# Altium integrated library QuickLogic pASIC 1.IntLib: 126 symbols (part 5 of 6)
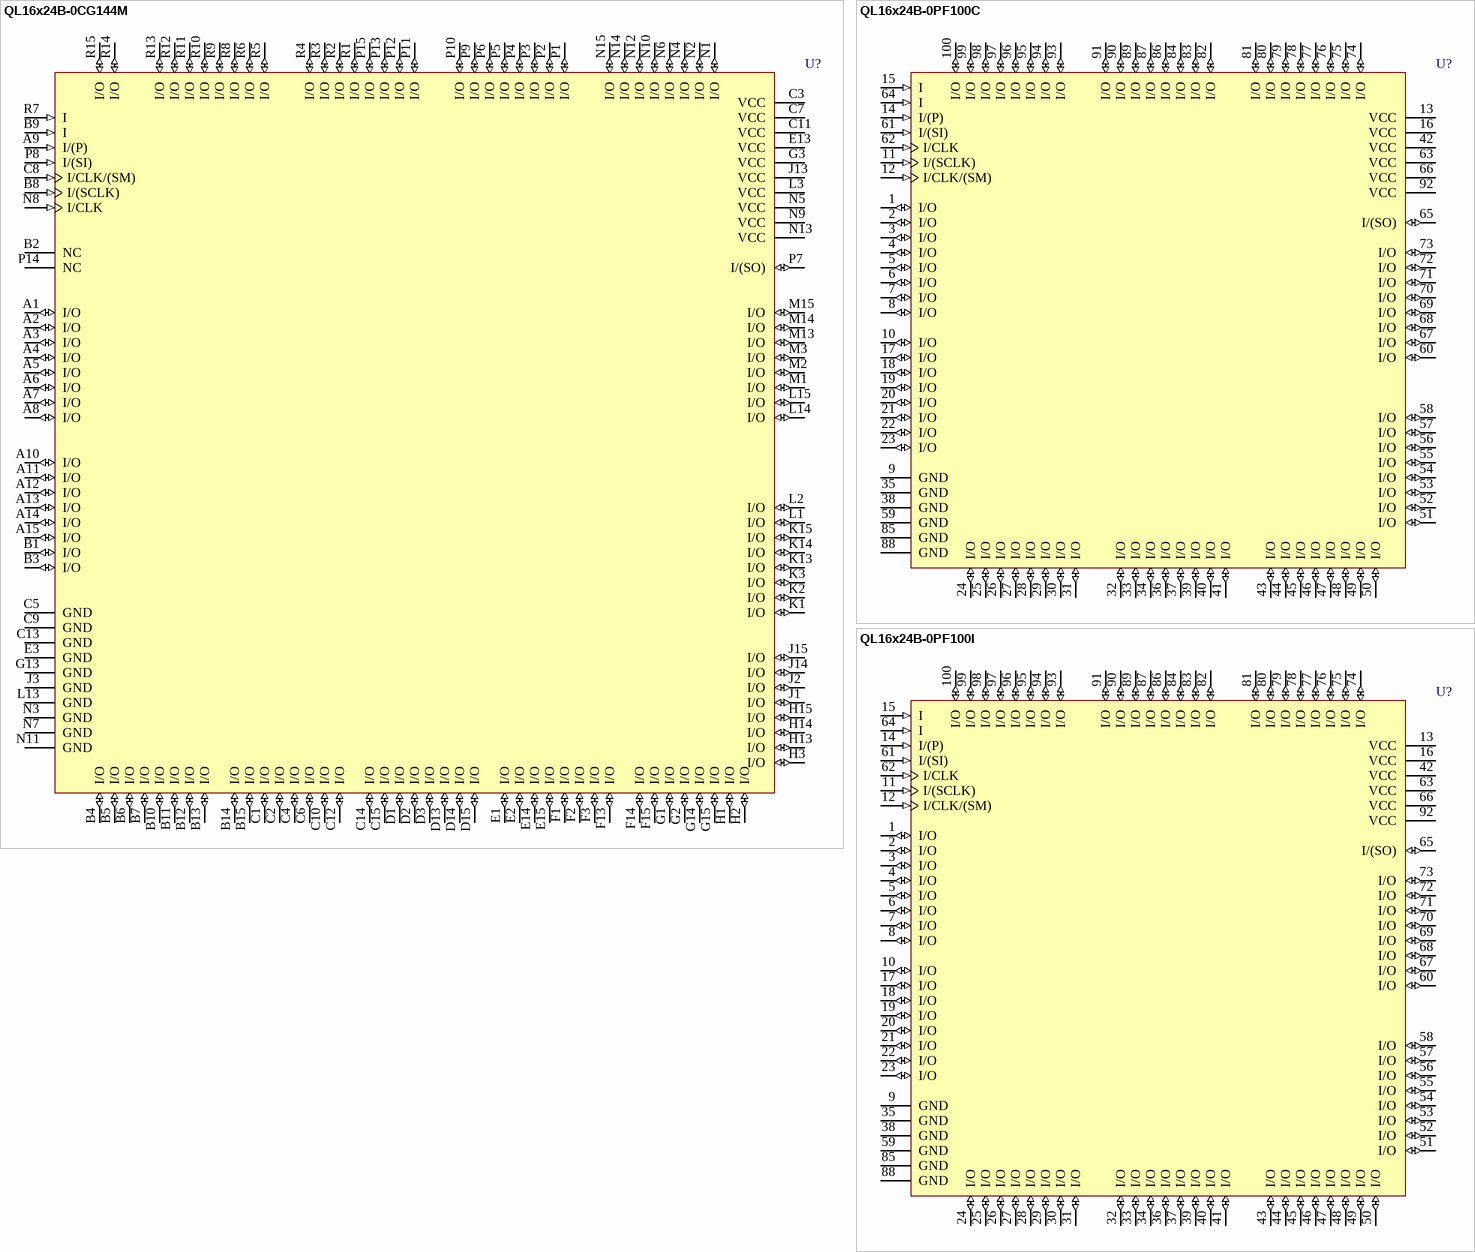
[diagram p32: symbols QL16x24B-0CG144M to QL16x24B-0PF100I]

## QL16x24B-0CG144M
designator U?
Very-High-Speed CMOS FPGA; Note: Pins B2,P14 are not connected; Published: 8-Jun-2000; LatestRevisionDate: 04-Mar-2005; LatestRevisionNote: Stylized 3D Model Added.; DatasheetVersion: 1999; PackageVersion: 1999; PackageReference: CG144; Publisher: Altium Limited; PackageDescription: 145-Pin Ceramic Pin Grid Array 2.54 mm Pitch; ComponentLink1Description: Manufacturer Link; ComponentLink1URL: http://www.quicklogic.com/; ComponentLink2Description: Datasheet; ComponentLink2URL: http://www.quicklogic.com/images/QL16x24b_DS.pdf; ComponentLink3Description: Discontinuation Notice; ComponentLink3URL: http://www.quicklogic.com/images/EOL_Letter_General.pdf
footprint CG144 (PGA, 145-Leads, Body 40x40mm, Pitch 2.54mm)
3D model QL16x24B-CG145 (145-Pin Ceramic Pin Grid Array 2.54 mm Pitch)
pins: A1 I/O (io), A2 I/O (io), A3 I/O (io), A4 I/O (io), A5 I/O (io), A6 I/O (io), A7 I/O (io), A8 I/O (io), A9 I/(P) (in), A10 I/O (io), A11 I/O (io), A12 I/O (io), A13 I/O (io), A14 I/O (io), A15 I/O (io), B1 I/O (io), B2 NC, B3 I/O (io), B4 I/O (io), B5 I/O (io), B6 I/O (io), B7 I/O (io), B8 I/(SCLK) (in), B9 I (in), B10 I/O (io), B11 I/O (io), B12 I/O (io), B13 I/O (io), B14 I/O (io), B15 I/O (io), C1 I/O (io), C2 I/O (io), C3 VCC (power), C4 I/O (io), C5 GND (power), C6 I/O (io), C7 VCC (power), C8 I/CLK/(SM) (in), C9 GND (power), C10 I/O (io), C11 VCC (power), C12 I/O (io), C13 GND (power), C14 I/O (io), C15 I/O (io), D1 I/O (io), D2 I/O (io), D3 I/O (io), D13 I/O (io), D14 I/O (io), D15 I/O (io), E1 I/O (io), E2 I/O (io), E3 GND (power), E13 VCC (power), E14 I/O (io), E15 I/O (io), F1 I/O (io), F2 I/O (io), F3 I/O (io), F13 I/O (io), F14 I/O (io), F15 I/O (io), G1 I/O (io), G2 I/O (io), G3 VCC (power), G13 GND (power), G14 I/O (io), G15 I/O (io), H1 I/O (io), H2 I/O (io), H3 I/O (io), H13 I/O (io), H14 I/O (io), H15 I/O (io), J1 I/O (io), J2 I/O (io), J3 GND (power), J13 VCC (power), J14 I/O (io), J15 I/O (io), K1 I/O (io), K2 I/O (io), K3 I/O (io), K13 I/O (io), K14 I/O (io), K15 I/O (io), L1 I/O (io), L2 I/O (io), L3 VCC (power), L13 GND (power), L14 I/O (io), L15 I/O (io), M1 I/O (io), M2 I/O (io), M3 I/O (io), M13 I/O (io), M14 I/O (io), M15 I/O (io), N1 I/O (io), N2 I/O (io), N3 GND (power), N4 I/O (io), N5 VCC (power), N6 I/O (io), N7 GND (power), N8 I/CLK (in), N9 VCC (power), N10 I/O (io), N11 GND (power), N12 I/O (io), N13 VCC (power), N14 I/O (io), N15 I/O (io), P1 I/O (io), P2 I/O (io), P3 I/O (io), P4 I/O (io), P5 I/O (io), P6 I/O (io), P7 I/(SO) (io), P8 I/(SI) (in), P9 I/O (io), P10 I/O (io), P11 I/O (io), P12 I/O (io), P13 I/O (io), P14 NC, P15 I/O (io), R1 I/O (io), R2 I/O (io), R3 I/O (io), R4 I/O (io), R5 I/O (io), R6 I/O (io), R7 I (in), R8 I/O (io), R9 I/O (io), R10 I/O (io), R11 I/O (io), R12 I/O (io), R13 I/O (io), R14 I/O (io), R15 I/O (io)

## QL16x24B-0PF100C
designator U?
Very-High-Speed CMOS FPGA; Published: 8-Jun-2000; LatestRevisionDate: 13-Apr-2006; LatestRevisionNote: IPC-7351 Footprint Added.; DatasheetVersion: 1999; PackageVersion: Feb-2000; PackageReference: PF100; Publisher: Altium Limited; PackageDescription: 100-Pin Thin Quad Flat Pack 0.5 mm Pitch; Code_JEDEC: MO-136; ComponentLink1Description: Manufacturer Link; ComponentLink1URL: http://www.quicklogic.com/; ComponentLink2Description: Datasheet; ComponentLink2URL: http://www.quicklogic.com/images/QL16x24b_DS.pdf; ComponentLink3Description: Discontinuation Notice; ComponentLink3URL: http://www.quicklogic.com/images/EOL_Letter_General.pdf
footprint PF100_N (Thin QFP, 100-Leads, Body 14x14mm, Pitch 0.5mm, IPC Medium Density)
footprint PF100_L (Thin QFP, 100-Leads, Body 14x14mm, Pitch 0.5mm, IPC High Density)
footprint PF100_M (Thin QFP, 100-Leads, Body 14x14mm, Pitch 0.5mm, IPC Low Density)
3D model QL16x24B-PF100 (100-Pin Thin Quad Flat Pack 0.5 mm Pitch)
pins: 1 I/O (io), 2 I/O (io), 3 I/O (io), 4 I/O (io), 5 I/O (io), 6 I/O (io), 7 I/O (io), 8 I/O (io), 9 GND (power), 10 I/O (io), 11 I/(SCLK) (in), 12 I/CLK/(SM) (in), 13 VCC (power), 14 I/(P) (in), 15 I (in), 16 VCC (power), 17 I/O (io), 18 I/O (io), 19 I/O (io), 20 I/O (io), 21 I/O (io), 22 I/O (io), 23 I/O (io), 24 I/O (io), 25 I/O (io), 26 I/O (io), 27 I/O (io), 28 I/O (io), 29 I/O (io), 30 I/O (io), 31 I/O (io), 32 I/O (io), 33 I/O (io), 34 I/O (io), 35 GND (power), 36 I/O (io), 37 I/O (io), 38 GND (power), 39 I/O (io), 40 I/O (io), 41 I/O (io), 42 VCC (power), 43 I/O (io), 44 I/O (io), 45 I/O (io), 46 I/O (io), 47 I/O (io), 48 I/O (io), 49 I/O (io), 50 I/O (io), 51 I/O (io), 52 I/O (io), 53 I/O (io), 54 I/O (io), 55 I/O (io), 56 I/O (io), 57 I/O (io), 58 I/O (io), 59 GND (power), 60 I/O (io), 61 I/(SI) (in), 62 I/CLK (in), 63 VCC (power), 64 I (in), 65 I/(SO) (io), 66 VCC (power), 67 I/O (io), 68 I/O (io), 69 I/O (io), 70 I/O (io), 71 I/O (io), 72 I/O (io), 73 I/O (io), 74 I/O (io), 75 I/O (io), 76 I/O (io), 77 I/O (io), 78 I/O (io), 79 I/O (io), 80 I/O (io), 81 I/O (io), 82 I/O (io), 83 I/O (io), 84 I/O (io), 85 GND (power), 86 I/O (io), 87 I/O (io), 88 GND (power), 89 I/O (io), 90 I/O (io), 91 I/O (io), 92 VCC (power), 93 I/O (io), 94 I/O (io), 95 I/O (io), 96 I/O (io), 97 I/O (io), 98 I/O (io), 99 I/O (io), 100 I/O (io)

## QL16x24B-0PF100I
designator U?
Very-High-Speed CMOS FPGA; Published: 8-Jun-2000; LatestRevisionDate: 13-Apr-2006; LatestRevisionNote: IPC-7351 Footprint Added.; DatasheetVersion: 1999; PackageVersion: Feb-2000; PackageReference: PF100; Publisher: Altium Limited; PackageDescription: 100-Pin Thin Quad Flat Pack 0.5 mm Pitch; Code_JEDEC: MO-136; ComponentLink1Description: Manufacturer Link; ComponentLink1URL: http://www.quicklogic.com/; ComponentLink2Description: Datasheet; ComponentLink2URL: http://www.quicklogic.com/images/QL16x24b_DS.pdf; ComponentLink3Description: Discontinuation Notice; ComponentLink3URL: http://www.quicklogic.com/images/EOL_Letter_General.pdf
footprint PF100_N (Thin QFP, 100-Leads, Body 14x14mm, Pitch 0.5mm, IPC Medium Density)
footprint PF100_L (Thin QFP, 100-Leads, Body 14x14mm, Pitch 0.5mm, IPC High Density)
footprint PF100_M (Thin QFP, 100-Leads, Body 14x14mm, Pitch 0.5mm, IPC Low Density)
3D model QL16x24B-PF100 (100-Pin Thin Quad Flat Pack 0.5 mm Pitch)
pins: 1 I/O (io), 2 I/O (io), 3 I/O (io), 4 I/O (io), 5 I/O (io), 6 I/O (io), 7 I/O (io), 8 I/O (io), 9 GND (power), 10 I/O (io), 11 I/(SCLK) (in), 12 I/CLK/(SM) (in), 13 VCC (power), 14 I/(P) (in), 15 I (in), 16 VCC (power), 17 I/O (io), 18 I/O (io), 19 I/O (io), 20 I/O (io), 21 I/O (io), 22 I/O (io), 23 I/O (io), 24 I/O (io), 25 I/O (io), 26 I/O (io), 27 I/O (io), 28 I/O (io), 29 I/O (io), 30 I/O (io), 31 I/O (io), 32 I/O (io), 33 I/O (io), 34 I/O (io), 35 GND (power), 36 I/O (io), 37 I/O (io), 38 GND (power), 39 I/O (io), 40 I/O (io), 41 I/O (io), 42 VCC (power), 43 I/O (io), 44 I/O (io), 45 I/O (io), 46 I/O (io), 47 I/O (io), 48 I/O (io), 49 I/O (io), 50 I/O (io), 51 I/O (io), 52 I/O (io), 53 I/O (io), 54 I/O (io), 55 I/O (io), 56 I/O (io), 57 I/O (io), 58 I/O (io), 59 GND (power), 60 I/O (io), 61 I/(SI) (in), 62 I/CLK (in), 63 VCC (power), 64 I (in), 65 I/(SO) (io), 66 VCC (power), 67 I/O (io), 68 I/O (io), 69 I/O (io), 70 I/O (io), 71 I/O (io), 72 I/O (io), 73 I/O (io), 74 I/O (io), 75 I/O (io), 76 I/O (io), 77 I/O (io), 78 I/O (io), 79 I/O (io), 80 I/O (io), 81 I/O (io), 82 I/O (io), 83 I/O (io), 84 I/O (io), 85 GND (power), 86 I/O (io), 87 I/O (io), 88 GND (power), 89 I/O (io), 90 I/O (io), 91 I/O (io), 92 VCC (power), 93 I/O (io), 94 I/O (io), 95 I/O (io), 96 I/O (io), 97 I/O (io), 98 I/O (io), 99 I/O (io), 100 I/O (io)

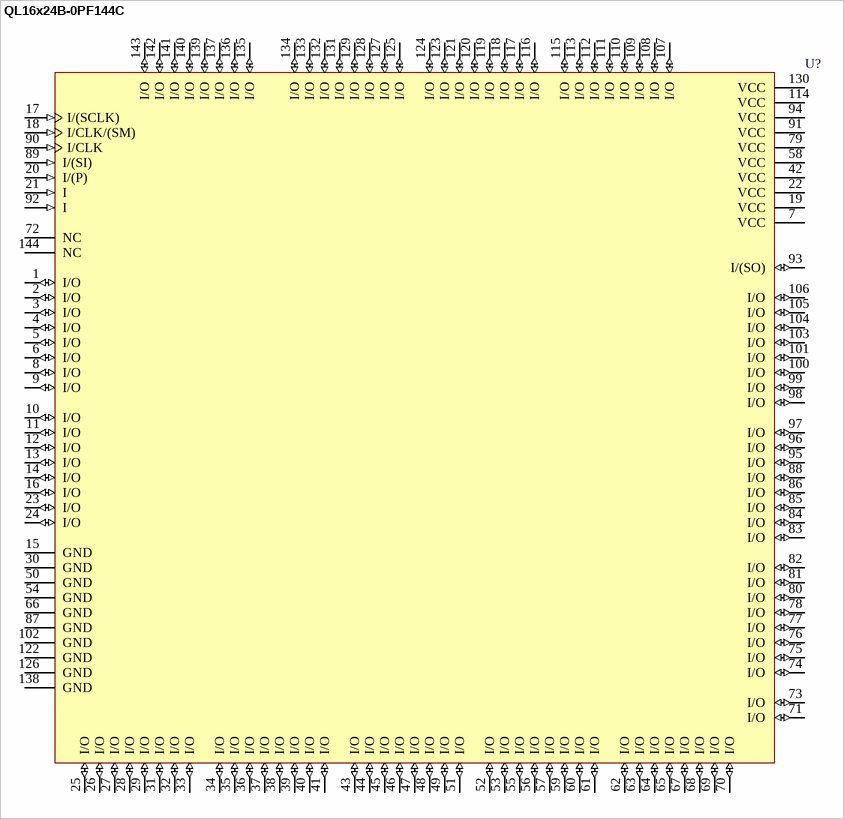
[diagram p18: symbol QL16x24B-0PF144C]

## QL16x24B-0PF144C
designator U?
Very-High-Speed CMOS FPGA; Note: Pins 72,144 are not connected; Published: 8-Jun-2000; LatestRevisionDate: 13-Apr-2006; LatestRevisionNote: IPC-7351 Footprint Added.; DatasheetVersion: 1999; PackageVersion: Feb-1992; PackageReference: PF144; Publisher: Altium Limited; PackageDescription: 144-Pin Thin Plastic Quad Flat Pack 0.5 mm Pitch; ComponentLink1Description: Manufacturer Link; ComponentLink1URL: http://www.quicklogic.com/; ComponentLink2Description: Datasheet; ComponentLink2URL: http://www.quicklogic.com/images/QL16x24b_DS.pdf; ComponentLink3Description: Discontinuation Notice; ComponentLink3URL: http://www.quicklogic.com/images/EOL_Letter_General.pdf
footprint PF144_N (Thin QFP, 144-Leads, Body 20x20mm, Pitch 0.5mm, IPC Medium Density)
footprint PF144_L (Thin QFP, 144-Leads, Body 20x20mm, Pitch 0.5mm, IPC High Density)
footprint PF144_M (Thin QFP, 144-Leads, Body 20x20mm, Pitch 0.5mm, IPC Low Density)
3D model QL16x24B-PF144 (144-Pin Thin Plastic Quad Flat Pack 0.5 mm Pitch)
pins: 1 I/O (io), 2 I/O (io), 3 I/O (io), 4 I/O (io), 5 I/O (io), 6 I/O (io), 7 VCC (power), 8 I/O (io), 9 I/O (io), 10 I/O (io), 11 I/O (io), 12 I/O (io), 13 I/O (io), 14 I/O (io), 15 GND (power), 16 I/O (io), 17 I/(SCLK) (in), 18 I/CLK/(SM) (in), 19 VCC (power), 20 I/(P) (in), 21 I (in), 22 VCC (power), 23 I/O (io), 24 I/O (io), 25 I/O (io), 26 I/O (io), 27 I/O (io), 28 I/O (io), 29 I/O (io), 30 GND (power), 31 I/O (io), 32 I/O (io), 33 I/O (io), 34 I/O (io), 35 I/O (io), 36 I/O (io), 37 I/O (io), 38 I/O (io), 39 I/O (io), 40 I/O (io), 41 I/O (io), 42 VCC (power), 43 I/O (io), 44 I/O (io), 45 I/O (io), 46 I/O (io), 47 I/O (io), 48 I/O (io), 49 I/O (io), 50 GND (power), 51 I/O (io), 52 I/O (io), 53 I/O (io), 54 GND (power), 55 I/O (io), 56 I/O (io), 57 I/O (io), 58 VCC (power), 59 I/O (io), 60 I/O (io), 61 I/O (io), 62 I/O (io), 63 I/O (io), 64 I/O (io), 65 I/O (io), 66 GND (power), 67 I/O (io), 68 I/O (io), 69 I/O (io), 70 I/O (io), 71 I/O (io), 72 NC, 73 I/O (io), 74 I/O (io), 75 I/O (io), 76 I/O (io), 77 I/O (io), 78 I/O (io), 79 VCC (power), 80 I/O (io), 81 I/O (io), 82 I/O (io), 83 I/O (io), 84 I/O (io), 85 I/O (io), 86 I/O (io), 87 GND (power), 88 I/O (io), 89 I/(SI) (in), 90 I/CLK (in), 91 VCC (power), 92 I (in), 93 I/(SO) (io), 94 VCC (power), 95 I/O (io), 96 I/O (io), 97 I/O (io), 98 I/O (io), 99 I/O (io), 100 I/O (io), 101 I/O (io), 102 GND (power), 103 I/O (io), 104 I/O (io), 105 I/O (io), 106 I/O (io), 107 I/O (io), 108 I/O (io), 109 I/O (io), 110 I/O (io), 111 I/O (io), 112 I/O (io), 113 I/O (io), 114 VCC (power), 115 I/O (io), 116 I/O (io), 117 I/O (io), 118 I/O (io), 119 I/O (io), 120 I/O (io), 121 I/O (io), 122 GND (power), 123 I/O (io), 124 I/O (io), 125 I/O (io), 126 GND (power), 127 I/O (io), 128 I/O (io), 129 I/O (io), 130 VCC (power), 131 I/O (io), 132 I/O (io), 133 I/O (io), 134 I/O (io), 135 I/O (io), 136 I/O (io), 137 I/O (io), 138 GND (power), 139 I/O (io), 140 I/O (io), 141 I/O (io), 142 I/O (io), 143 I/O (io), 144 NC

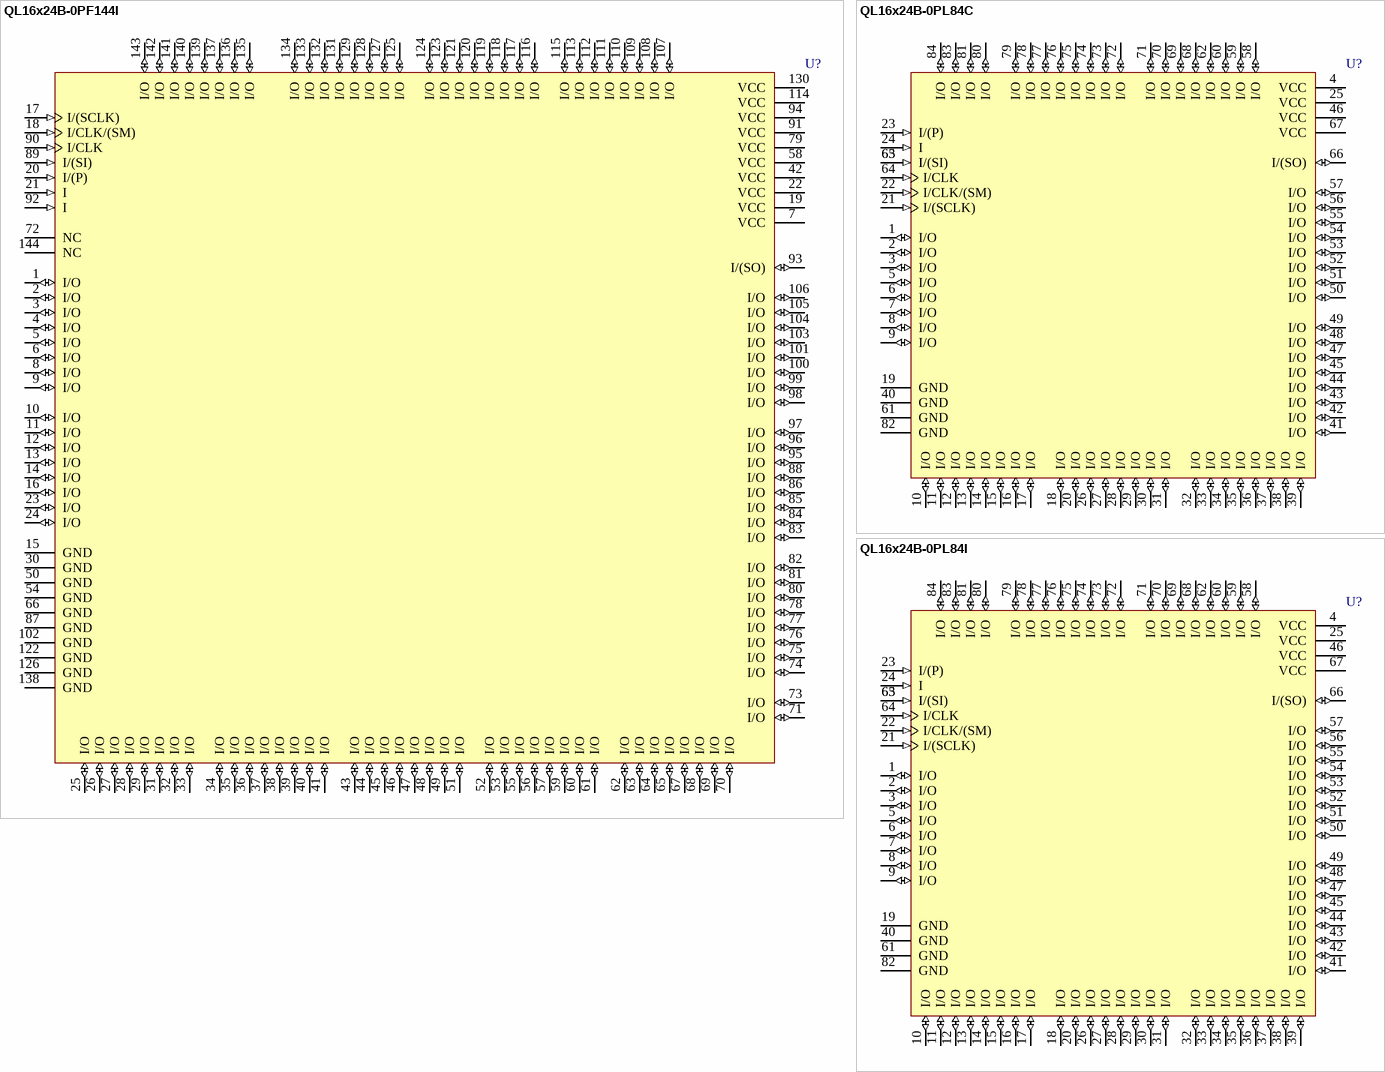
[diagram p19: symbols QL16x24B-0PF144I to QL16x24B-0PL84I]

## QL16x24B-0PF144I
designator U?
Very-High-Speed CMOS FPGA; Note: Pins 72,144 are not connected; Published: 8-Jun-2000; LatestRevisionDate: 13-Apr-2006; LatestRevisionNote: IPC-7351 Footprint Added.; DatasheetVersion: 1999; PackageVersion: Feb-1992; PackageReference: PF144; Publisher: Altium Limited; PackageDescription: 144-Pin Thin Plastic Quad Flat Pack 0.5 mm Pitch; ComponentLink1Description: Manufacturer Link; ComponentLink1URL: http://www.quicklogic.com/; ComponentLink2Description: Datasheet; ComponentLink2URL: http://www.quicklogic.com/images/QL16x24b_DS.pdf; ComponentLink3Description: Discontinuation Notice; ComponentLink3URL: http://www.quicklogic.com/images/EOL_Letter_General.pdf
footprint PF144_N (Thin QFP, 144-Leads, Body 20x20mm, Pitch 0.5mm, IPC Medium Density)
footprint PF144_L (Thin QFP, 144-Leads, Body 20x20mm, Pitch 0.5mm, IPC High Density)
footprint PF144_M (Thin QFP, 144-Leads, Body 20x20mm, Pitch 0.5mm, IPC Low Density)
3D model QL16x24B-PF144 (144-Pin Thin Plastic Quad Flat Pack 0.5 mm Pitch)
pins: 1 I/O (io), 2 I/O (io), 3 I/O (io), 4 I/O (io), 5 I/O (io), 6 I/O (io), 7 VCC (power), 8 I/O (io), 9 I/O (io), 10 I/O (io), 11 I/O (io), 12 I/O (io), 13 I/O (io), 14 I/O (io), 15 GND (power), 16 I/O (io), 17 I/(SCLK) (in), 18 I/CLK/(SM) (in), 19 VCC (power), 20 I/(P) (in), 21 I (in), 22 VCC (power), 23 I/O (io), 24 I/O (io), 25 I/O (io), 26 I/O (io), 27 I/O (io), 28 I/O (io), 29 I/O (io), 30 GND (power), 31 I/O (io), 32 I/O (io), 33 I/O (io), 34 I/O (io), 35 I/O (io), 36 I/O (io), 37 I/O (io), 38 I/O (io), 39 I/O (io), 40 I/O (io), 41 I/O (io), 42 VCC (power), 43 I/O (io), 44 I/O (io), 45 I/O (io), 46 I/O (io), 47 I/O (io), 48 I/O (io), 49 I/O (io), 50 GND (power), 51 I/O (io), 52 I/O (io), 53 I/O (io), 54 GND (power), 55 I/O (io), 56 I/O (io), 57 I/O (io), 58 VCC (power), 59 I/O (io), 60 I/O (io), 61 I/O (io), 62 I/O (io), 63 I/O (io), 64 I/O (io), 65 I/O (io), 66 GND (power), 67 I/O (io), 68 I/O (io), 69 I/O (io), 70 I/O (io), 71 I/O (io), 72 NC, 73 I/O (io), 74 I/O (io), 75 I/O (io), 76 I/O (io), 77 I/O (io), 78 I/O (io), 79 VCC (power), 80 I/O (io), 81 I/O (io), 82 I/O (io), 83 I/O (io), 84 I/O (io), 85 I/O (io), 86 I/O (io), 87 GND (power), 88 I/O (io), 89 I/(SI) (in), 90 I/CLK (in), 91 VCC (power), 92 I (in), 93 I/(SO) (io), 94 VCC (power), 95 I/O (io), 96 I/O (io), 97 I/O (io), 98 I/O (io), 99 I/O (io), 100 I/O (io), 101 I/O (io), 102 GND (power), 103 I/O (io), 104 I/O (io), 105 I/O (io), 106 I/O (io), 107 I/O (io), 108 I/O (io), 109 I/O (io), 110 I/O (io), 111 I/O (io), 112 I/O (io), 113 I/O (io), 114 VCC (power), 115 I/O (io), 116 I/O (io), 117 I/O (io), 118 I/O (io), 119 I/O (io), 120 I/O (io), 121 I/O (io), 122 GND (power), 123 I/O (io), 124 I/O (io), 125 I/O (io), 126 GND (power), 127 I/O (io), 128 I/O (io), 129 I/O (io), 130 VCC (power), 131 I/O (io), 132 I/O (io), 133 I/O (io), 134 I/O (io), 135 I/O (io), 136 I/O (io), 137 I/O (io), 138 GND (power), 139 I/O (io), 140 I/O (io), 141 I/O (io), 142 I/O (io), 143 I/O (io), 144 NC

## QL16x24B-0PL84C
designator U?
Very-High-Speed CMOS FPGA; Published: 8-Jun-2000; LatestRevisionDate: 13-Apr-2006; LatestRevisionNote: IPC-7351 Footprint Added.; DatasheetVersion: 1999; PackageVersion: Feb-1996; PackageReference: PL84; Publisher: Altium Limited; PackageDescription: 84-Pin Plastic Leaded Chip Carrier 1.27 mm Pitch; Code_IPC: PLCC-84; ComponentLink1Description: Manufacturer Link; ComponentLink1URL: http://www.quicklogic.com/; ComponentLink2Description: Datasheet; ComponentLink2URL: http://www.quicklogic.com/images/QL16x24b_DS.pdf; ComponentLink3Description: Discontinuation Notice; ComponentLink3URL: http://www.quicklogic.com/images/EOL_Letter_General.pdf
footprint PL84_N (Leaded Chip Carrier, 84-Leads, Body 29.3x29.3mm, Pitch 1.27mm, IPC Medium Density)
footprint PL84_L (Leaded Chip Carrier, 84-Leads, Body 29.3x29.3mm, Pitch 1.27mm, IPC High Density)
footprint PL84_M (Leaded Chip Carrier, 84-Leads, Body 29.3x29.3mm, Pitch 1.27mm, IPC Low Density)
3D model QL16x24B-QCC-J84 (84-Pin Plastic Leaded Chip Carrier 1.27 mm Pitch)
pins: 1 I/O (io), 2 I/O (io), 3 I/O (io), 4 VCC (power), 5 I/O (io), 6 I/O (io), 7 I/O (io), 8 I/O (io), 9 I/O (io), 10 I/O (io), 11 I/O (io), 12 I/O (io), 13 I/O (io), 14 I/O (io), 15 I/O (io), 16 I/O (io), 17 I/O (io), 18 I/O (io), 19 GND (power), 20 I/O (io), 21 I/(SCLK) (in), 22 I/CLK/(SM) (in), 23 I/(P) (in), 24 I (in), 25 VCC (power), 26 I/O (io), 27 I/O (io), 28 I/O (io), 29 I/O (io), 30 I/O (io), 31 I/O (io), 32 I/O (io), 33 I/O (io), 34 I/O (io), 35 I/O (io), 36 I/O (io), 37 I/O (io), 38 I/O (io), 39 I/O (io), 40 GND (power), 41 I/O (io), 42 I/O (io), 43 I/O (io), 44 I/O (io), 45 I/O (io), 46 VCC (power), 47 I/O (io), 48 I/O (io), 49 I/O (io), 50 I/O (io), 51 I/O (io), 52 I/O (io), 53 I/O (io), 54 I/O (io), 55 I/O (io), 56 I/O (io), 57 I/O (io), 58 I/O (io), 59 I/O (io), 60 I/O (io), 61 GND (power), 62 I/O (io), 63 I/(SI) (in), 64 I/CLK (in), 65 I (in), 66 I/(SO) (io), 67 VCC (power), 68 I/O (io), 69 I/O (io), 70 I/O (io), 71 I/O (io), 72 I/O (io), 73 I/O (io), 74 I/O (io), 75 I/O (io), 76 I/O (io), 77 I/O (io), 78 I/O (io), 79 I/O (io), 80 I/O (io), 81 I/O (io), 82 GND (power), 83 I/O (io), 84 I/O (io)

## QL16x24B-0PL84I
designator U?
Very-High-Speed CMOS FPGA; Published: 8-Jun-2000; LatestRevisionDate: 13-Apr-2006; LatestRevisionNote: IPC-7351 Footprint Added.; DatasheetVersion: 1999; PackageVersion: Feb-1996; PackageReference: PL84; Publisher: Altium Limited; PackageDescription: 84-Pin Plastic Leaded Chip Carrier 1.27 mm Pitch; Code_IPC: PLCC-84; ComponentLink1Description: Manufacturer Link; ComponentLink1URL: http://www.quicklogic.com/; ComponentLink2Description: Datasheet; ComponentLink2URL: http://www.quicklogic.com/images/QL16x24b_DS.pdf; ComponentLink3Description: Discontinuation Notice; ComponentLink3URL: http://www.quicklogic.com/images/EOL_Letter_General.pdf
footprint PL84_N (Leaded Chip Carrier, 84-Leads, Body 29.3x29.3mm, Pitch 1.27mm, IPC Medium Density)
footprint PL84_L (Leaded Chip Carrier, 84-Leads, Body 29.3x29.3mm, Pitch 1.27mm, IPC High Density)
footprint PL84_M (Leaded Chip Carrier, 84-Leads, Body 29.3x29.3mm, Pitch 1.27mm, IPC Low Density)
3D model QL16x24B-QCC-J84 (84-Pin Plastic Leaded Chip Carrier 1.27 mm Pitch)
pins: 1 I/O (io), 2 I/O (io), 3 I/O (io), 4 VCC (power), 5 I/O (io), 6 I/O (io), 7 I/O (io), 8 I/O (io), 9 I/O (io), 10 I/O (io), 11 I/O (io), 12 I/O (io), 13 I/O (io), 14 I/O (io), 15 I/O (io), 16 I/O (io), 17 I/O (io), 18 I/O (io), 19 GND (power), 20 I/O (io), 21 I/(SCLK) (in), 22 I/CLK/(SM) (in), 23 I/(P) (in), 24 I (in), 25 VCC (power), 26 I/O (io), 27 I/O (io), 28 I/O (io), 29 I/O (io), 30 I/O (io), 31 I/O (io), 32 I/O (io), 33 I/O (io), 34 I/O (io), 35 I/O (io), 36 I/O (io), 37 I/O (io), 38 I/O (io), 39 I/O (io), 40 GND (power), 41 I/O (io), 42 I/O (io), 43 I/O (io), 44 I/O (io), 45 I/O (io), 46 VCC (power), 47 I/O (io), 48 I/O (io), 49 I/O (io), 50 I/O (io), 51 I/O (io), 52 I/O (io), 53 I/O (io), 54 I/O (io), 55 I/O (io), 56 I/O (io), 57 I/O (io), 58 I/O (io), 59 I/O (io), 60 I/O (io), 61 GND (power), 62 I/O (io), 63 I/(SI) (in), 64 I/CLK (in), 65 I (in), 66 I/(SO) (io), 67 VCC (power), 68 I/O (io), 69 I/O (io), 70 I/O (io), 71 I/O (io), 72 I/O (io), 73 I/O (io), 74 I/O (io), 75 I/O (io), 76 I/O (io), 77 I/O (io), 78 I/O (io), 79 I/O (io), 80 I/O (io), 81 I/O (io), 82 GND (power), 83 I/O (io), 84 I/O (io)

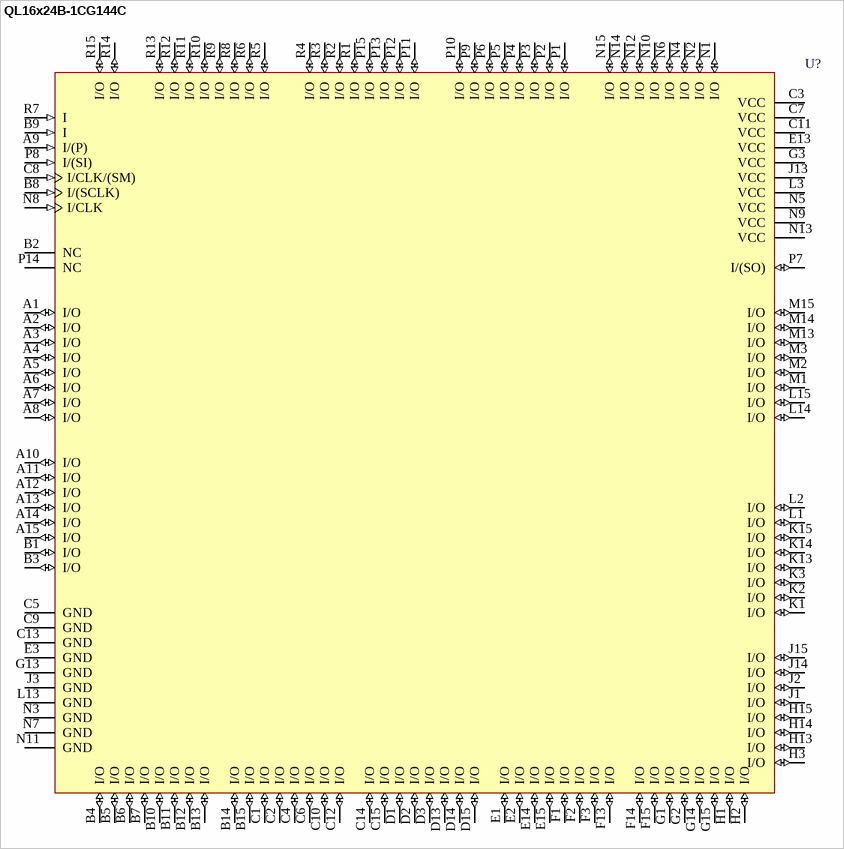
[diagram p20: symbol QL16x24B-1CG144C]

## QL16x24B-1CG144C
designator U?
Very-High-Speed CMOS FPGA; Note: Pins B2,P14 are not connected; Published: 8-Jun-2000; LatestRevisionDate: 04-Mar-2005; LatestRevisionNote: Stylized 3D Model Added.; DatasheetVersion: 1999; PackageVersion: 1999; PackageReference: CG144; Publisher: Altium Limited; PackageDescription: 145-Pin Ceramic Pin Grid Array 2.54 mm Pitch; ComponentLink1Description: Manufacturer Link; ComponentLink1URL: http://www.quicklogic.com/; ComponentLink2Description: Datasheet; ComponentLink2URL: http://www.quicklogic.com/images/QL16x24b_DS.pdf; ComponentLink3Description: Discontinuation Notice; ComponentLink3URL: http://www.quicklogic.com/images/EOL_Letter_General.pdf
footprint CG144 (PGA, 145-Leads, Body 40x40mm, Pitch 2.54mm)
3D model QL16x24B-CG145 (145-Pin Ceramic Pin Grid Array 2.54 mm Pitch)
pins: A1 I/O (io), A2 I/O (io), A3 I/O (io), A4 I/O (io), A5 I/O (io), A6 I/O (io), A7 I/O (io), A8 I/O (io), A9 I/(P) (in), A10 I/O (io), A11 I/O (io), A12 I/O (io), A13 I/O (io), A14 I/O (io), A15 I/O (io), B1 I/O (io), B2 NC, B3 I/O (io), B4 I/O (io), B5 I/O (io), B6 I/O (io), B7 I/O (io), B8 I/(SCLK) (in), B9 I (in), B10 I/O (io), B11 I/O (io), B12 I/O (io), B13 I/O (io), B14 I/O (io), B15 I/O (io), C1 I/O (io), C2 I/O (io), C3 VCC (power), C4 I/O (io), C5 GND (power), C6 I/O (io), C7 VCC (power), C8 I/CLK/(SM) (in), C9 GND (power), C10 I/O (io), C11 VCC (power), C12 I/O (io), C13 GND (power), C14 I/O (io), C15 I/O (io), D1 I/O (io), D2 I/O (io), D3 I/O (io), D13 I/O (io), D14 I/O (io), D15 I/O (io), E1 I/O (io), E2 I/O (io), E3 GND (power), E13 VCC (power), E14 I/O (io), E15 I/O (io), F1 I/O (io), F2 I/O (io), F3 I/O (io), F13 I/O (io), F14 I/O (io), F15 I/O (io), G1 I/O (io), G2 I/O (io), G3 VCC (power), G13 GND (power), G14 I/O (io), G15 I/O (io), H1 I/O (io), H2 I/O (io), H3 I/O (io), H13 I/O (io), H14 I/O (io), H15 I/O (io), J1 I/O (io), J2 I/O (io), J3 GND (power), J13 VCC (power), J14 I/O (io), J15 I/O (io), K1 I/O (io), K2 I/O (io), K3 I/O (io), K13 I/O (io), K14 I/O (io), K15 I/O (io), L1 I/O (io), L2 I/O (io), L3 VCC (power), L13 GND (power), L14 I/O (io), L15 I/O (io), M1 I/O (io), M2 I/O (io), M3 I/O (io), M13 I/O (io), M14 I/O (io), M15 I/O (io), N1 I/O (io), N2 I/O (io), N3 GND (power), N4 I/O (io), N5 VCC (power), N6 I/O (io), N7 GND (power), N8 I/CLK (in), N9 VCC (power), N10 I/O (io), N11 GND (power), N12 I/O (io), N13 VCC (power), N14 I/O (io), N15 I/O (io), P1 I/O (io), P2 I/O (io), P3 I/O (io), P4 I/O (io), P5 I/O (io), P6 I/O (io), P7 I/(SO) (io), P8 I/(SI) (in), P9 I/O (io), P10 I/O (io), P11 I/O (io), P12 I/O (io), P13 I/O (io), P14 NC, P15 I/O (io), R1 I/O (io), R2 I/O (io), R3 I/O (io), R4 I/O (io), R5 I/O (io), R6 I/O (io), R7 I (in), R8 I/O (io), R9 I/O (io), R10 I/O (io), R11 I/O (io), R12 I/O (io), R13 I/O (io), R14 I/O (io), R15 I/O (io)

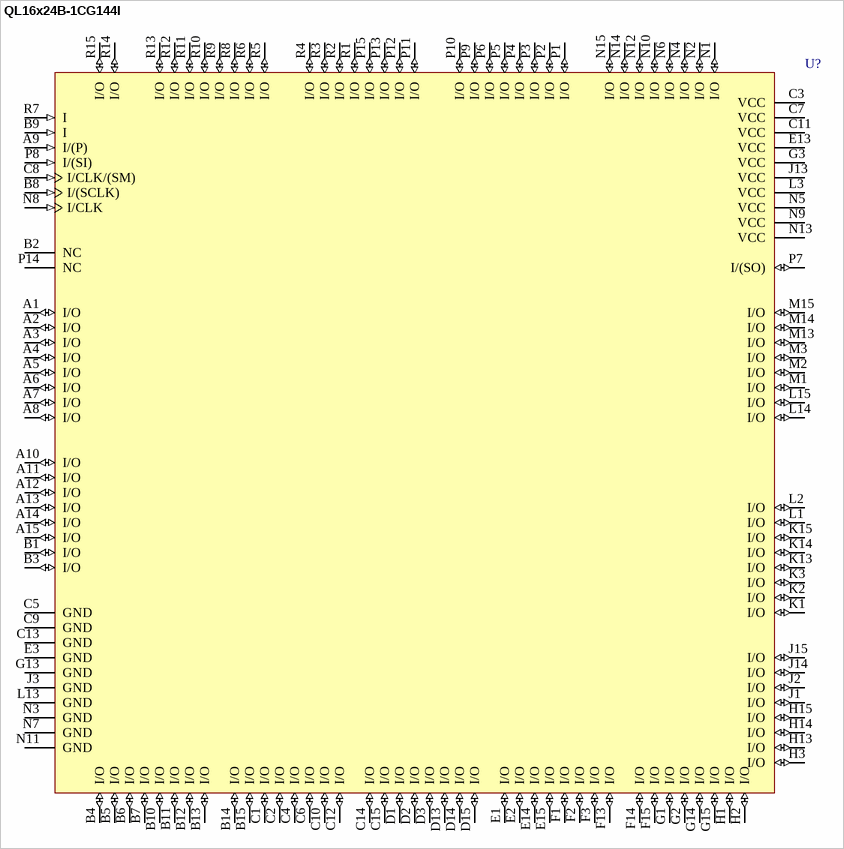
[diagram p21: symbol QL16x24B-1CG144I]

## QL16x24B-1CG144I
designator U?
Very-High-Speed CMOS FPGA; Note: Pins B2,P14 are not connected; Published: 8-Jun-2000; LatestRevisionDate: 04-Mar-2005; LatestRevisionNote: Stylized 3D Model Added.; DatasheetVersion: 1999; PackageVersion: 1999; PackageReference: CG144; Publisher: Altium Limited; PackageDescription: 145-Pin Ceramic Pin Grid Array 2.54 mm Pitch; ComponentLink1Description: Manufacturer Link; ComponentLink1URL: http://www.quicklogic.com/; ComponentLink2Description: Datasheet; ComponentLink2URL: http://www.quicklogic.com/images/QL16x24b_DS.pdf; ComponentLink3Description: Discontinuation Notice; ComponentLink3URL: http://www.quicklogic.com/images/EOL_Letter_General.pdf
footprint CG144 (PGA, 145-Leads, Body 40x40mm, Pitch 2.54mm)
3D model QL16x24B-CG145 (145-Pin Ceramic Pin Grid Array 2.54 mm Pitch)
pins: A1 I/O (io), A2 I/O (io), A3 I/O (io), A4 I/O (io), A5 I/O (io), A6 I/O (io), A7 I/O (io), A8 I/O (io), A9 I/(P) (in), A10 I/O (io), A11 I/O (io), A12 I/O (io), A13 I/O (io), A14 I/O (io), A15 I/O (io), B1 I/O (io), B2 NC, B3 I/O (io), B4 I/O (io), B5 I/O (io), B6 I/O (io), B7 I/O (io), B8 I/(SCLK) (in), B9 I (in), B10 I/O (io), B11 I/O (io), B12 I/O (io), B13 I/O (io), B14 I/O (io), B15 I/O (io), C1 I/O (io), C2 I/O (io), C3 VCC (power), C4 I/O (io), C5 GND (power), C6 I/O (io), C7 VCC (power), C8 I/CLK/(SM) (in), C9 GND (power), C10 I/O (io), C11 VCC (power), C12 I/O (io), C13 GND (power), C14 I/O (io), C15 I/O (io), D1 I/O (io), D2 I/O (io), D3 I/O (io), D13 I/O (io), D14 I/O (io), D15 I/O (io), E1 I/O (io), E2 I/O (io), E3 GND (power), E13 VCC (power), E14 I/O (io), E15 I/O (io), F1 I/O (io), F2 I/O (io), F3 I/O (io), F13 I/O (io), F14 I/O (io), F15 I/O (io), G1 I/O (io), G2 I/O (io), G3 VCC (power), G13 GND (power), G14 I/O (io), G15 I/O (io), H1 I/O (io), H2 I/O (io), H3 I/O (io), H13 I/O (io), H14 I/O (io), H15 I/O (io), J1 I/O (io), J2 I/O (io), J3 GND (power), J13 VCC (power), J14 I/O (io), J15 I/O (io), K1 I/O (io), K2 I/O (io), K3 I/O (io), K13 I/O (io), K14 I/O (io), K15 I/O (io), L1 I/O (io), L2 I/O (io), L3 VCC (power), L13 GND (power), L14 I/O (io), L15 I/O (io), M1 I/O (io), M2 I/O (io), M3 I/O (io), M13 I/O (io), M14 I/O (io), M15 I/O (io), N1 I/O (io), N2 I/O (io), N3 GND (power), N4 I/O (io), N5 VCC (power), N6 I/O (io), N7 GND (power), N8 I/CLK (in), N9 VCC (power), N10 I/O (io), N11 GND (power), N12 I/O (io), N13 VCC (power), N14 I/O (io), N15 I/O (io), P1 I/O (io), P2 I/O (io), P3 I/O (io), P4 I/O (io), P5 I/O (io), P6 I/O (io), P7 I/(SO) (io), P8 I/(SI) (in), P9 I/O (io), P10 I/O (io), P11 I/O (io), P12 I/O (io), P13 I/O (io), P14 NC, P15 I/O (io), R1 I/O (io), R2 I/O (io), R3 I/O (io), R4 I/O (io), R5 I/O (io), R6 I/O (io), R7 I (in), R8 I/O (io), R9 I/O (io), R10 I/O (io), R11 I/O (io), R12 I/O (io), R13 I/O (io), R14 I/O (io), R15 I/O (io)

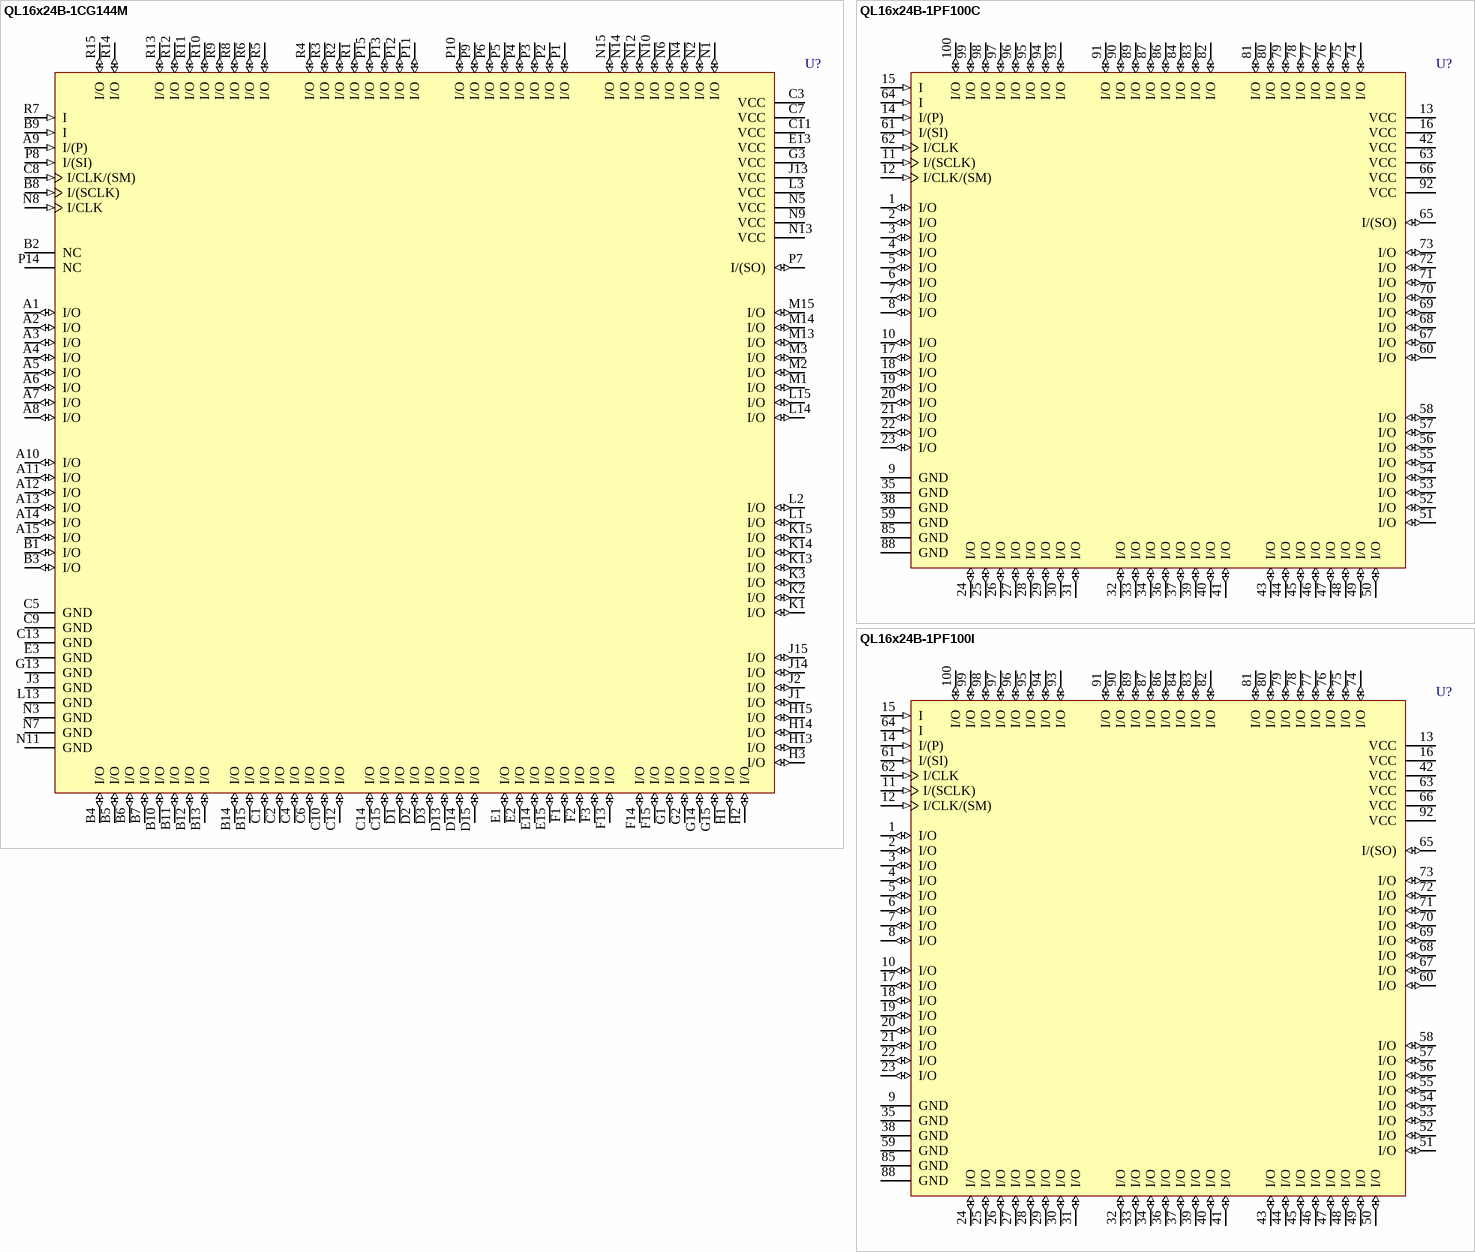
[diagram p22: symbols QL16x24B-1CG144M to QL16x24B-1PF100I]

## QL16x24B-1CG144M
designator U?
Very-High-Speed CMOS FPGA; Note: Pins B2,P14 are not connected; Published: 8-Jun-2000; LatestRevisionDate: 04-Mar-2005; LatestRevisionNote: Stylized 3D Model Added.; DatasheetVersion: 1999; PackageVersion: 1999; PackageReference: CG144; Publisher: Altium Limited; PackageDescription: 145-Pin Ceramic Pin Grid Array 2.54 mm Pitch; ComponentLink1Description: Manufacturer Link; ComponentLink1URL: http://www.quicklogic.com/; ComponentLink2Description: Datasheet; ComponentLink2URL: http://www.quicklogic.com/images/QL16x24b_DS.pdf; ComponentLink3Description: Discontinuation Notice; ComponentLink3URL: http://www.quicklogic.com/images/EOL_Letter_General.pdf
footprint CG144 (PGA, 145-Leads, Body 40x40mm, Pitch 2.54mm)
3D model QL16x24B-CG145 (145-Pin Ceramic Pin Grid Array 2.54 mm Pitch)
pins: A1 I/O (io), A2 I/O (io), A3 I/O (io), A4 I/O (io), A5 I/O (io), A6 I/O (io), A7 I/O (io), A8 I/O (io), A9 I/(P) (in), A10 I/O (io), A11 I/O (io), A12 I/O (io), A13 I/O (io), A14 I/O (io), A15 I/O (io), B1 I/O (io), B2 NC, B3 I/O (io), B4 I/O (io), B5 I/O (io), B6 I/O (io), B7 I/O (io), B8 I/(SCLK) (in), B9 I (in), B10 I/O (io), B11 I/O (io), B12 I/O (io), B13 I/O (io), B14 I/O (io), B15 I/O (io), C1 I/O (io), C2 I/O (io), C3 VCC (power), C4 I/O (io), C5 GND (power), C6 I/O (io), C7 VCC (power), C8 I/CLK/(SM) (in), C9 GND (power), C10 I/O (io), C11 VCC (power), C12 I/O (io), C13 GND (power), C14 I/O (io), C15 I/O (io), D1 I/O (io), D2 I/O (io), D3 I/O (io), D13 I/O (io), D14 I/O (io), D15 I/O (io), E1 I/O (io), E2 I/O (io), E3 GND (power), E13 VCC (power), E14 I/O (io), E15 I/O (io), F1 I/O (io), F2 I/O (io), F3 I/O (io), F13 I/O (io), F14 I/O (io), F15 I/O (io), G1 I/O (io), G2 I/O (io), G3 VCC (power), G13 GND (power), G14 I/O (io), G15 I/O (io), H1 I/O (io), H2 I/O (io), H3 I/O (io), H13 I/O (io), H14 I/O (io), H15 I/O (io), J1 I/O (io), J2 I/O (io), J3 GND (power), J13 VCC (power), J14 I/O (io), J15 I/O (io), K1 I/O (io), K2 I/O (io), K3 I/O (io), K13 I/O (io), K14 I/O (io), K15 I/O (io), L1 I/O (io), L2 I/O (io), L3 VCC (power), L13 GND (power), L14 I/O (io), L15 I/O (io), M1 I/O (io), M2 I/O (io), M3 I/O (io), M13 I/O (io), M14 I/O (io), M15 I/O (io), N1 I/O (io), N2 I/O (io), N3 GND (power), N4 I/O (io), N5 VCC (power), N6 I/O (io), N7 GND (power), N8 I/CLK (in), N9 VCC (power), N10 I/O (io), N11 GND (power), N12 I/O (io), N13 VCC (power), N14 I/O (io), N15 I/O (io), P1 I/O (io), P2 I/O (io), P3 I/O (io), P4 I/O (io), P5 I/O (io), P6 I/O (io), P7 I/(SO) (io), P8 I/(SI) (in), P9 I/O (io), P10 I/O (io), P11 I/O (io), P12 I/O (io), P13 I/O (io), P14 NC, P15 I/O (io), R1 I/O (io), R2 I/O (io), R3 I/O (io), R4 I/O (io), R5 I/O (io), R6 I/O (io), R7 I (in), R8 I/O (io), R9 I/O (io), R10 I/O (io), R11 I/O (io), R12 I/O (io), R13 I/O (io), R14 I/O (io), R15 I/O (io)

## QL16x24B-1PF100C
designator U?
Very-High-Speed CMOS FPGA; Published: 8-Jun-2000; LatestRevisionDate: 13-Apr-2006; LatestRevisionNote: IPC-7351 Footprint Added.; DatasheetVersion: 1999; PackageVersion: Feb-2000; PackageReference: PF100; Publisher: Altium Limited; PackageDescription: 100-Pin Thin Quad Flat Pack 0.5 mm Pitch; Code_JEDEC: MO-136; ComponentLink1Description: Manufacturer Link; ComponentLink1URL: http://www.quicklogic.com/; ComponentLink2Description: Datasheet; ComponentLink2URL: http://www.quicklogic.com/images/QL16x24b_DS.pdf; ComponentLink3Description: Discontinuation Notice; ComponentLink3URL: http://www.quicklogic.com/images/EOL_Letter_General.pdf
footprint PF100_N (Thin QFP, 100-Leads, Body 14x14mm, Pitch 0.5mm, IPC Medium Density)
footprint PF100_L (Thin QFP, 100-Leads, Body 14x14mm, Pitch 0.5mm, IPC High Density)
footprint PF100_M (Thin QFP, 100-Leads, Body 14x14mm, Pitch 0.5mm, IPC Low Density)
3D model QL16x24B-PF100 (100-Pin Thin Quad Flat Pack 0.5 mm Pitch)
pins: 1 I/O (io), 2 I/O (io), 3 I/O (io), 4 I/O (io), 5 I/O (io), 6 I/O (io), 7 I/O (io), 8 I/O (io), 9 GND (power), 10 I/O (io), 11 I/(SCLK) (in), 12 I/CLK/(SM) (in), 13 VCC (power), 14 I/(P) (in), 15 I (in), 16 VCC (power), 17 I/O (io), 18 I/O (io), 19 I/O (io), 20 I/O (io), 21 I/O (io), 22 I/O (io), 23 I/O (io), 24 I/O (io), 25 I/O (io), 26 I/O (io), 27 I/O (io), 28 I/O (io), 29 I/O (io), 30 I/O (io), 31 I/O (io), 32 I/O (io), 33 I/O (io), 34 I/O (io), 35 GND (power), 36 I/O (io), 37 I/O (io), 38 GND (power), 39 I/O (io), 40 I/O (io), 41 I/O (io), 42 VCC (power), 43 I/O (io), 44 I/O (io), 45 I/O (io), 46 I/O (io), 47 I/O (io), 48 I/O (io), 49 I/O (io), 50 I/O (io), 51 I/O (io), 52 I/O (io), 53 I/O (io), 54 I/O (io), 55 I/O (io), 56 I/O (io), 57 I/O (io), 58 I/O (io), 59 GND (power), 60 I/O (io), 61 I/(SI) (in), 62 I/CLK (in), 63 VCC (power), 64 I (in), 65 I/(SO) (io), 66 VCC (power), 67 I/O (io), 68 I/O (io), 69 I/O (io), 70 I/O (io), 71 I/O (io), 72 I/O (io), 73 I/O (io), 74 I/O (io), 75 I/O (io), 76 I/O (io), 77 I/O (io), 78 I/O (io), 79 I/O (io), 80 I/O (io), 81 I/O (io), 82 I/O (io), 83 I/O (io), 84 I/O (io), 85 GND (power), 86 I/O (io), 87 I/O (io), 88 GND (power), 89 I/O (io), 90 I/O (io), 91 I/O (io), 92 VCC (power), 93 I/O (io), 94 I/O (io), 95 I/O (io), 96 I/O (io), 97 I/O (io), 98 I/O (io), 99 I/O (io), 100 I/O (io)

## QL16x24B-1PF100I
designator U?
Very-High-Speed CMOS FPGA; Published: 8-Jun-2000; LatestRevisionDate: 13-Apr-2006; LatestRevisionNote: IPC-7351 Footprint Added.; DatasheetVersion: 1999; PackageVersion: Feb-2000; PackageReference: PF100; Publisher: Altium Limited; PackageDescription: 100-Pin Thin Quad Flat Pack 0.5 mm Pitch; Code_JEDEC: MO-136; ComponentLink1Description: Manufacturer Link; ComponentLink1URL: http://www.quicklogic.com/; ComponentLink2Description: Datasheet; ComponentLink2URL: http://www.quicklogic.com/images/QL16x24b_DS.pdf; ComponentLink3Description: Discontinuation Notice; ComponentLink3URL: http://www.quicklogic.com/images/EOL_Letter_General.pdf
footprint PF100_N (Thin QFP, 100-Leads, Body 14x14mm, Pitch 0.5mm, IPC Medium Density)
footprint PF100_L (Thin QFP, 100-Leads, Body 14x14mm, Pitch 0.5mm, IPC High Density)
footprint PF100_M (Thin QFP, 100-Leads, Body 14x14mm, Pitch 0.5mm, IPC Low Density)
3D model QL16x24B-PF100 (100-Pin Thin Quad Flat Pack 0.5 mm Pitch)
pins: 1 I/O (io), 2 I/O (io), 3 I/O (io), 4 I/O (io), 5 I/O (io), 6 I/O (io), 7 I/O (io), 8 I/O (io), 9 GND (power), 10 I/O (io), 11 I/(SCLK) (in), 12 I/CLK/(SM) (in), 13 VCC (power), 14 I/(P) (in), 15 I (in), 16 VCC (power), 17 I/O (io), 18 I/O (io), 19 I/O (io), 20 I/O (io), 21 I/O (io), 22 I/O (io), 23 I/O (io), 24 I/O (io), 25 I/O (io), 26 I/O (io), 27 I/O (io), 28 I/O (io), 29 I/O (io), 30 I/O (io), 31 I/O (io), 32 I/O (io), 33 I/O (io), 34 I/O (io), 35 GND (power), 36 I/O (io), 37 I/O (io), 38 GND (power), 39 I/O (io), 40 I/O (io), 41 I/O (io), 42 VCC (power), 43 I/O (io), 44 I/O (io), 45 I/O (io), 46 I/O (io), 47 I/O (io), 48 I/O (io), 49 I/O (io), 50 I/O (io), 51 I/O (io), 52 I/O (io), 53 I/O (io), 54 I/O (io), 55 I/O (io), 56 I/O (io), 57 I/O (io), 58 I/O (io), 59 GND (power), 60 I/O (io), 61 I/(SI) (in), 62 I/CLK (in), 63 VCC (power), 64 I (in), 65 I/(SO) (io), 66 VCC (power), 67 I/O (io), 68 I/O (io), 69 I/O (io), 70 I/O (io), 71 I/O (io), 72 I/O (io), 73 I/O (io), 74 I/O (io), 75 I/O (io), 76 I/O (io), 77 I/O (io), 78 I/O (io), 79 I/O (io), 80 I/O (io), 81 I/O (io), 82 I/O (io), 83 I/O (io), 84 I/O (io), 85 GND (power), 86 I/O (io), 87 I/O (io), 88 GND (power), 89 I/O (io), 90 I/O (io), 91 I/O (io), 92 VCC (power), 93 I/O (io), 94 I/O (io), 95 I/O (io), 96 I/O (io), 97 I/O (io), 98 I/O (io), 99 I/O (io), 100 I/O (io)

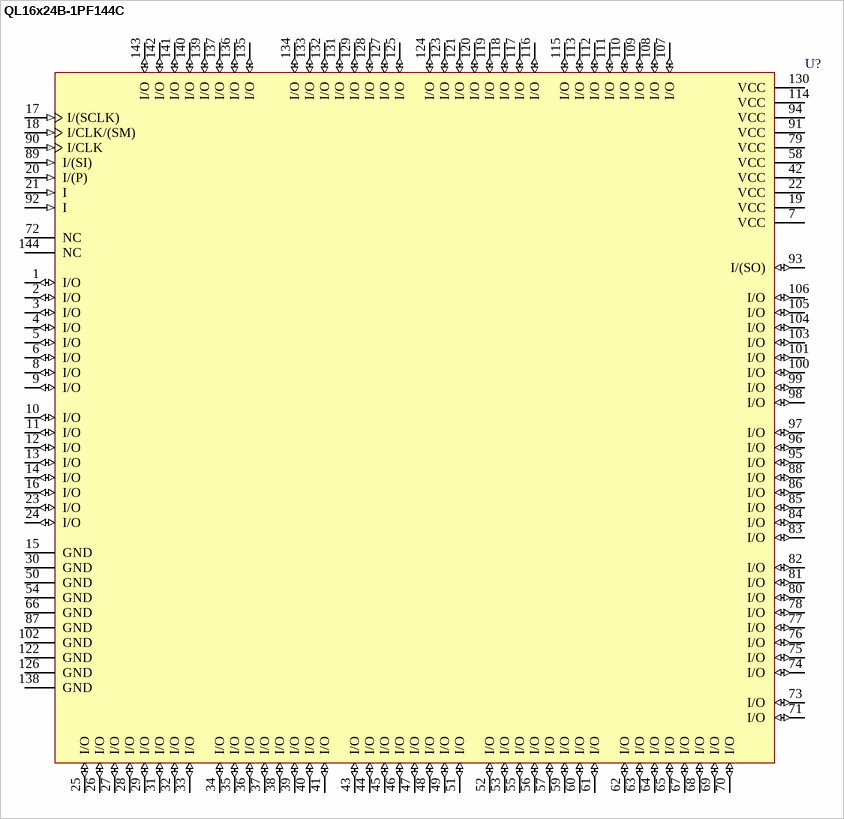
[diagram p23: symbol QL16x24B-1PF144C]

## QL16x24B-1PF144C
designator U?
Very-High-Speed CMOS FPGA; Note: Pins 72,144 are not connected; Published: 8-Jun-2000; LatestRevisionDate: 13-Apr-2006; LatestRevisionNote: IPC-7351 Footprint Added.; DatasheetVersion: 1999; PackageVersion: Feb-1992; PackageReference: PF144; Publisher: Altium Limited; PackageDescription: 144-Pin Thin Plastic Quad Flat Pack 0.5 mm Pitch; ComponentLink1Description: Manufacturer Link; ComponentLink1URL: http://www.quicklogic.com/; ComponentLink2Description: Datasheet; ComponentLink2URL: http://www.quicklogic.com/images/QL16x24b_DS.pdf; ComponentLink3Description: Discontinuation Notice; ComponentLink3URL: http://www.quicklogic.com/images/EOL_Letter_General.pdf
footprint PF144_N (Thin QFP, 144-Leads, Body 20x20mm, Pitch 0.5mm, IPC Medium Density)
footprint PF144_L (Thin QFP, 144-Leads, Body 20x20mm, Pitch 0.5mm, IPC High Density)
footprint PF144_M (Thin QFP, 144-Leads, Body 20x20mm, Pitch 0.5mm, IPC Low Density)
3D model QL16x24B-PF144 (144-Pin Thin Plastic Quad Flat Pack 0.5 mm Pitch)
pins: 1 I/O (io), 2 I/O (io), 3 I/O (io), 4 I/O (io), 5 I/O (io), 6 I/O (io), 7 VCC (power), 8 I/O (io), 9 I/O (io), 10 I/O (io), 11 I/O (io), 12 I/O (io), 13 I/O (io), 14 I/O (io), 15 GND (power), 16 I/O (io), 17 I/(SCLK) (in), 18 I/CLK/(SM) (in), 19 VCC (power), 20 I/(P) (in), 21 I (in), 22 VCC (power), 23 I/O (io), 24 I/O (io), 25 I/O (io), 26 I/O (io), 27 I/O (io), 28 I/O (io), 29 I/O (io), 30 GND (power), 31 I/O (io), 32 I/O (io), 33 I/O (io), 34 I/O (io), 35 I/O (io), 36 I/O (io), 37 I/O (io), 38 I/O (io), 39 I/O (io), 40 I/O (io), 41 I/O (io), 42 VCC (power), 43 I/O (io), 44 I/O (io), 45 I/O (io), 46 I/O (io), 47 I/O (io), 48 I/O (io), 49 I/O (io), 50 GND (power), 51 I/O (io), 52 I/O (io), 53 I/O (io), 54 GND (power), 55 I/O (io), 56 I/O (io), 57 I/O (io), 58 VCC (power), 59 I/O (io), 60 I/O (io), 61 I/O (io), 62 I/O (io), 63 I/O (io), 64 I/O (io), 65 I/O (io), 66 GND (power), 67 I/O (io), 68 I/O (io), 69 I/O (io), 70 I/O (io), 71 I/O (io), 72 NC, 73 I/O (io), 74 I/O (io), 75 I/O (io), 76 I/O (io), 77 I/O (io), 78 I/O (io), 79 VCC (power), 80 I/O (io), 81 I/O (io), 82 I/O (io), 83 I/O (io), 84 I/O (io), 85 I/O (io), 86 I/O (io), 87 GND (power), 88 I/O (io), 89 I/(SI) (in), 90 I/CLK (in), 91 VCC (power), 92 I (in), 93 I/(SO) (io), 94 VCC (power), 95 I/O (io), 96 I/O (io), 97 I/O (io), 98 I/O (io), 99 I/O (io), 100 I/O (io), 101 I/O (io), 102 GND (power), 103 I/O (io), 104 I/O (io), 105 I/O (io), 106 I/O (io), 107 I/O (io), 108 I/O (io), 109 I/O (io), 110 I/O (io), 111 I/O (io), 112 I/O (io), 113 I/O (io), 114 VCC (power), 115 I/O (io), 116 I/O (io), 117 I/O (io), 118 I/O (io), 119 I/O (io), 120 I/O (io), 121 I/O (io), 122 GND (power), 123 I/O (io), 124 I/O (io), 125 I/O (io), 126 GND (power), 127 I/O (io), 128 I/O (io), 129 I/O (io), 130 VCC (power), 131 I/O (io), 132 I/O (io), 133 I/O (io), 134 I/O (io), 135 I/O (io), 136 I/O (io), 137 I/O (io), 138 GND (power), 139 I/O (io), 140 I/O (io), 141 I/O (io), 142 I/O (io), 143 I/O (io), 144 NC

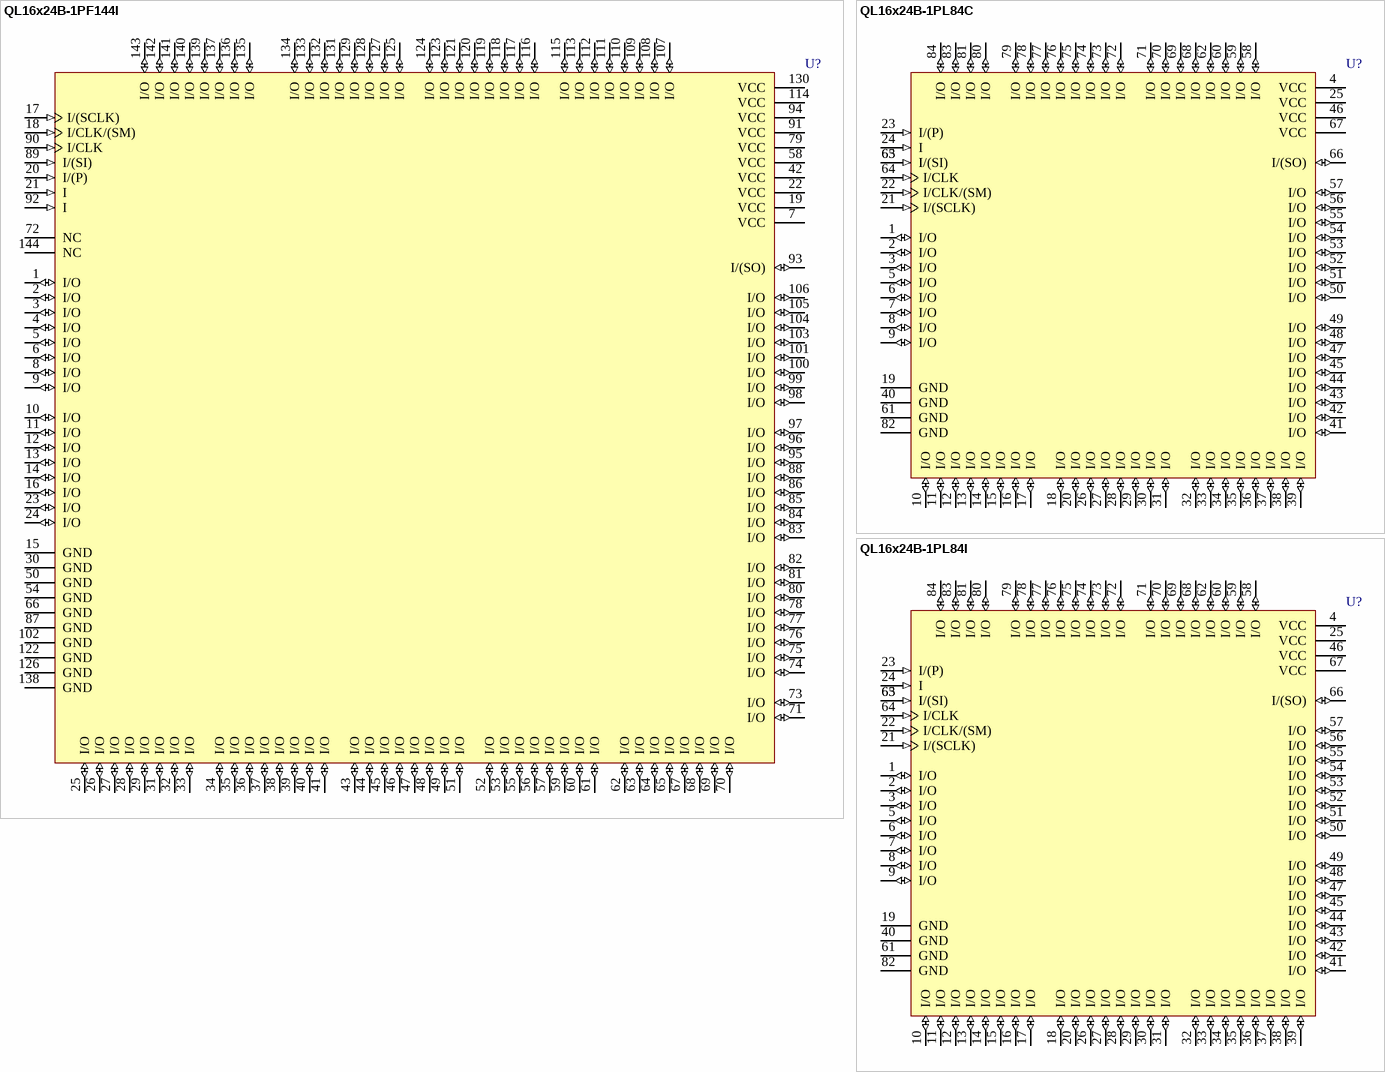
[diagram p24: symbols QL16x24B-1PF144I to QL16x24B-1PL84I]

## QL16x24B-1PF144I
designator U?
Very-High-Speed CMOS FPGA; Note: Pins 72,144 are not connected; Published: 8-Jun-2000; LatestRevisionDate: 13-Apr-2006; LatestRevisionNote: IPC-7351 Footprint Added.; DatasheetVersion: 1999; PackageVersion: Feb-1992; PackageReference: PF144; Publisher: Altium Limited; PackageDescription: 144-Pin Thin Plastic Quad Flat Pack 0.5 mm Pitch; ComponentLink1Description: Manufacturer Link; ComponentLink1URL: http://www.quicklogic.com/; ComponentLink2Description: Datasheet; ComponentLink2URL: http://www.quicklogic.com/images/QL16x24b_DS.pdf; ComponentLink3Description: Discontinuation Notice; ComponentLink3URL: http://www.quicklogic.com/images/EOL_Letter_General.pdf
footprint PF144_N (Thin QFP, 144-Leads, Body 20x20mm, Pitch 0.5mm, IPC Medium Density)
footprint PF144_L (Thin QFP, 144-Leads, Body 20x20mm, Pitch 0.5mm, IPC High Density)
footprint PF144_M (Thin QFP, 144-Leads, Body 20x20mm, Pitch 0.5mm, IPC Low Density)
3D model QL16x24B-PF144 (144-Pin Thin Plastic Quad Flat Pack 0.5 mm Pitch)
pins: 1 I/O (io), 2 I/O (io), 3 I/O (io), 4 I/O (io), 5 I/O (io), 6 I/O (io), 7 VCC (power), 8 I/O (io), 9 I/O (io), 10 I/O (io), 11 I/O (io), 12 I/O (io), 13 I/O (io), 14 I/O (io), 15 GND (power), 16 I/O (io), 17 I/(SCLK) (in), 18 I/CLK/(SM) (in), 19 VCC (power), 20 I/(P) (in), 21 I (in), 22 VCC (power), 23 I/O (io), 24 I/O (io), 25 I/O (io), 26 I/O (io), 27 I/O (io), 28 I/O (io), 29 I/O (io), 30 GND (power), 31 I/O (io), 32 I/O (io), 33 I/O (io), 34 I/O (io), 35 I/O (io), 36 I/O (io), 37 I/O (io), 38 I/O (io), 39 I/O (io), 40 I/O (io), 41 I/O (io), 42 VCC (power), 43 I/O (io), 44 I/O (io), 45 I/O (io), 46 I/O (io), 47 I/O (io), 48 I/O (io), 49 I/O (io), 50 GND (power), 51 I/O (io), 52 I/O (io), 53 I/O (io), 54 GND (power), 55 I/O (io), 56 I/O (io), 57 I/O (io), 58 VCC (power), 59 I/O (io), 60 I/O (io), 61 I/O (io), 62 I/O (io), 63 I/O (io), 64 I/O (io), 65 I/O (io), 66 GND (power), 67 I/O (io), 68 I/O (io), 69 I/O (io), 70 I/O (io), 71 I/O (io), 72 NC, 73 I/O (io), 74 I/O (io), 75 I/O (io), 76 I/O (io), 77 I/O (io), 78 I/O (io), 79 VCC (power), 80 I/O (io), 81 I/O (io), 82 I/O (io), 83 I/O (io), 84 I/O (io), 85 I/O (io), 86 I/O (io), 87 GND (power), 88 I/O (io), 89 I/(SI) (in), 90 I/CLK (in), 91 VCC (power), 92 I (in), 93 I/(SO) (io), 94 VCC (power), 95 I/O (io), 96 I/O (io), 97 I/O (io), 98 I/O (io), 99 I/O (io), 100 I/O (io), 101 I/O (io), 102 GND (power), 103 I/O (io), 104 I/O (io), 105 I/O (io), 106 I/O (io), 107 I/O (io), 108 I/O (io), 109 I/O (io), 110 I/O (io), 111 I/O (io), 112 I/O (io), 113 I/O (io), 114 VCC (power), 115 I/O (io), 116 I/O (io), 117 I/O (io), 118 I/O (io), 119 I/O (io), 120 I/O (io), 121 I/O (io), 122 GND (power), 123 I/O (io), 124 I/O (io), 125 I/O (io), 126 GND (power), 127 I/O (io), 128 I/O (io), 129 I/O (io), 130 VCC (power), 131 I/O (io), 132 I/O (io), 133 I/O (io), 134 I/O (io), 135 I/O (io), 136 I/O (io), 137 I/O (io), 138 GND (power), 139 I/O (io), 140 I/O (io), 141 I/O (io), 142 I/O (io), 143 I/O (io), 144 NC

## QL16x24B-1PL84C
designator U?
Very-High-Speed CMOS FPGA; Published: 8-Jun-2000; LatestRevisionDate: 13-Apr-2006; LatestRevisionNote: IPC-7351 Footprint Added.; DatasheetVersion: 1999; PackageVersion: Feb-1996; PackageReference: PL84; Publisher: Altium Limited; PackageDescription: 84-Pin Plastic Leaded Chip Carrier 1.27 mm Pitch; Code_IPC: PLCC-84; ComponentLink1Description: Manufacturer Link; ComponentLink1URL: http://www.quicklogic.com/; ComponentLink2Description: Datasheet; ComponentLink2URL: http://www.quicklogic.com/images/QL16x24b_DS.pdf; ComponentLink3Description: Discontinuation Notice; ComponentLink3URL: http://www.quicklogic.com/images/EOL_Letter_General.pdf
footprint PL84_N (Leaded Chip Carrier, 84-Leads, Body 29.3x29.3mm, Pitch 1.27mm, IPC Medium Density)
footprint PL84_L (Leaded Chip Carrier, 84-Leads, Body 29.3x29.3mm, Pitch 1.27mm, IPC High Density)
footprint PL84_M (Leaded Chip Carrier, 84-Leads, Body 29.3x29.3mm, Pitch 1.27mm, IPC Low Density)
3D model QL16x24B-QCC-J84 (84-Pin Plastic Leaded Chip Carrier 1.27 mm Pitch)
pins: 1 I/O (io), 2 I/O (io), 3 I/O (io), 4 VCC (power), 5 I/O (io), 6 I/O (io), 7 I/O (io), 8 I/O (io), 9 I/O (io), 10 I/O (io), 11 I/O (io), 12 I/O (io), 13 I/O (io), 14 I/O (io), 15 I/O (io), 16 I/O (io), 17 I/O (io), 18 I/O (io), 19 GND (power), 20 I/O (io), 21 I/(SCLK) (in), 22 I/CLK/(SM) (in), 23 I/(P) (in), 24 I (in), 25 VCC (power), 26 I/O (io), 27 I/O (io), 28 I/O (io), 29 I/O (io), 30 I/O (io), 31 I/O (io), 32 I/O (io), 33 I/O (io), 34 I/O (io), 35 I/O (io), 36 I/O (io), 37 I/O (io), 38 I/O (io), 39 I/O (io), 40 GND (power), 41 I/O (io), 42 I/O (io), 43 I/O (io), 44 I/O (io), 45 I/O (io), 46 VCC (power), 47 I/O (io), 48 I/O (io), 49 I/O (io), 50 I/O (io), 51 I/O (io), 52 I/O (io), 53 I/O (io), 54 I/O (io), 55 I/O (io), 56 I/O (io), 57 I/O (io), 58 I/O (io), 59 I/O (io), 60 I/O (io), 61 GND (power), 62 I/O (io), 63 I/(SI) (in), 64 I/CLK (in), 65 I (in), 66 I/(SO) (io), 67 VCC (power), 68 I/O (io), 69 I/O (io), 70 I/O (io), 71 I/O (io), 72 I/O (io), 73 I/O (io), 74 I/O (io), 75 I/O (io), 76 I/O (io), 77 I/O (io), 78 I/O (io), 79 I/O (io), 80 I/O (io), 81 I/O (io), 82 GND (power), 83 I/O (io), 84 I/O (io)

## QL16x24B-1PL84I
designator U?
Very-High-Speed CMOS FPGA; Published: 8-Jun-2000; LatestRevisionDate: 13-Apr-2006; LatestRevisionNote: IPC-7351 Footprint Added.; DatasheetVersion: 1999; PackageVersion: Feb-1996; PackageReference: PL84; Publisher: Altium Limited; PackageDescription: 84-Pin Plastic Leaded Chip Carrier 1.27 mm Pitch; Code_IPC: PLCC-84; ComponentLink1Description: Manufacturer Link; ComponentLink1URL: http://www.quicklogic.com/; ComponentLink2Description: Datasheet; ComponentLink2URL: http://www.quicklogic.com/images/QL16x24b_DS.pdf; ComponentLink3Description: Discontinuation Notice; ComponentLink3URL: http://www.quicklogic.com/images/EOL_Letter_General.pdf
footprint PL84_N (Leaded Chip Carrier, 84-Leads, Body 29.3x29.3mm, Pitch 1.27mm, IPC Medium Density)
footprint PL84_L (Leaded Chip Carrier, 84-Leads, Body 29.3x29.3mm, Pitch 1.27mm, IPC High Density)
footprint PL84_M (Leaded Chip Carrier, 84-Leads, Body 29.3x29.3mm, Pitch 1.27mm, IPC Low Density)
3D model QL16x24B-QCC-J84 (84-Pin Plastic Leaded Chip Carrier 1.27 mm Pitch)
pins: 1 I/O (io), 2 I/O (io), 3 I/O (io), 4 VCC (power), 5 I/O (io), 6 I/O (io), 7 I/O (io), 8 I/O (io), 9 I/O (io), 10 I/O (io), 11 I/O (io), 12 I/O (io), 13 I/O (io), 14 I/O (io), 15 I/O (io), 16 I/O (io), 17 I/O (io), 18 I/O (io), 19 GND (power), 20 I/O (io), 21 I/(SCLK) (in), 22 I/CLK/(SM) (in), 23 I/(P) (in), 24 I (in), 25 VCC (power), 26 I/O (io), 27 I/O (io), 28 I/O (io), 29 I/O (io), 30 I/O (io), 31 I/O (io), 32 I/O (io), 33 I/O (io), 34 I/O (io), 35 I/O (io), 36 I/O (io), 37 I/O (io), 38 I/O (io), 39 I/O (io), 40 GND (power), 41 I/O (io), 42 I/O (io), 43 I/O (io), 44 I/O (io), 45 I/O (io), 46 VCC (power), 47 I/O (io), 48 I/O (io), 49 I/O (io), 50 I/O (io), 51 I/O (io), 52 I/O (io), 53 I/O (io), 54 I/O (io), 55 I/O (io), 56 I/O (io), 57 I/O (io), 58 I/O (io), 59 I/O (io), 60 I/O (io), 61 GND (power), 62 I/O (io), 63 I/(SI) (in), 64 I/CLK (in), 65 I (in), 66 I/(SO) (io), 67 VCC (power), 68 I/O (io), 69 I/O (io), 70 I/O (io), 71 I/O (io), 72 I/O (io), 73 I/O (io), 74 I/O (io), 75 I/O (io), 76 I/O (io), 77 I/O (io), 78 I/O (io), 79 I/O (io), 80 I/O (io), 81 I/O (io), 82 GND (power), 83 I/O (io), 84 I/O (io)

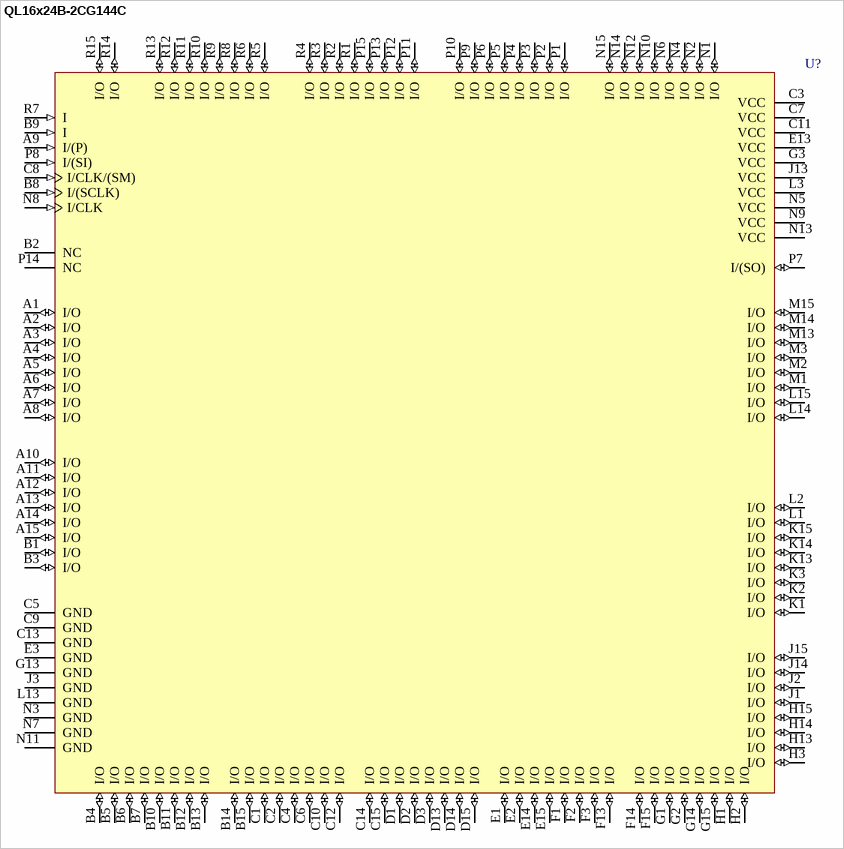
[diagram p25: symbol QL16x24B-2CG144C]

## QL16x24B-2CG144C
designator U?
Very-High-Speed CMOS FPGA; Note: Pins B2,P14 are not connected; Published: 8-Jun-2000; LatestRevisionDate: 04-Mar-2005; LatestRevisionNote: Stylized 3D Model Added.; DatasheetVersion: 1999; PackageVersion: 1999; PackageReference: CG144; Publisher: Altium Limited; PackageDescription: 145-Pin Ceramic Pin Grid Array 2.54 mm Pitch; ComponentLink1Description: Manufacturer Link; ComponentLink1URL: http://www.quicklogic.com/; ComponentLink2Description: Datasheet; ComponentLink2URL: http://www.quicklogic.com/images/QL16x24b_DS.pdf; ComponentLink3Description: Discontinuation Notice; ComponentLink3URL: http://www.quicklogic.com/images/EOL_Letter_General.pdf
footprint CG144 (PGA, 145-Leads, Body 40x40mm, Pitch 2.54mm)
3D model QL16x24B-CG145 (145-Pin Ceramic Pin Grid Array 2.54 mm Pitch)
pins: A1 I/O (io), A2 I/O (io), A3 I/O (io), A4 I/O (io), A5 I/O (io), A6 I/O (io), A7 I/O (io), A8 I/O (io), A9 I/(P) (in), A10 I/O (io), A11 I/O (io), A12 I/O (io), A13 I/O (io), A14 I/O (io), A15 I/O (io), B1 I/O (io), B2 NC, B3 I/O (io), B4 I/O (io), B5 I/O (io), B6 I/O (io), B7 I/O (io), B8 I/(SCLK) (in), B9 I (in), B10 I/O (io), B11 I/O (io), B12 I/O (io), B13 I/O (io), B14 I/O (io), B15 I/O (io), C1 I/O (io), C2 I/O (io), C3 VCC (power), C4 I/O (io), C5 GND (power), C6 I/O (io), C7 VCC (power), C8 I/CLK/(SM) (in), C9 GND (power), C10 I/O (io), C11 VCC (power), C12 I/O (io), C13 GND (power), C14 I/O (io), C15 I/O (io), D1 I/O (io), D2 I/O (io), D3 I/O (io), D13 I/O (io), D14 I/O (io), D15 I/O (io), E1 I/O (io), E2 I/O (io), E3 GND (power), E13 VCC (power), E14 I/O (io), E15 I/O (io), F1 I/O (io), F2 I/O (io), F3 I/O (io), F13 I/O (io), F14 I/O (io), F15 I/O (io), G1 I/O (io), G2 I/O (io), G3 VCC (power), G13 GND (power), G14 I/O (io), G15 I/O (io), H1 I/O (io), H2 I/O (io), H3 I/O (io), H13 I/O (io), H14 I/O (io), H15 I/O (io), J1 I/O (io), J2 I/O (io), J3 GND (power), J13 VCC (power), J14 I/O (io), J15 I/O (io), K1 I/O (io), K2 I/O (io), K3 I/O (io), K13 I/O (io), K14 I/O (io), K15 I/O (io), L1 I/O (io), L2 I/O (io), L3 VCC (power), L13 GND (power), L14 I/O (io), L15 I/O (io), M1 I/O (io), M2 I/O (io), M3 I/O (io), M13 I/O (io), M14 I/O (io), M15 I/O (io), N1 I/O (io), N2 I/O (io), N3 GND (power), N4 I/O (io), N5 VCC (power), N6 I/O (io), N7 GND (power), N8 I/CLK (in), N9 VCC (power), N10 I/O (io), N11 GND (power), N12 I/O (io), N13 VCC (power), N14 I/O (io), N15 I/O (io), P1 I/O (io), P2 I/O (io), P3 I/O (io), P4 I/O (io), P5 I/O (io), P6 I/O (io), P7 I/(SO) (io), P8 I/(SI) (in), P9 I/O (io), P10 I/O (io), P11 I/O (io), P12 I/O (io), P13 I/O (io), P14 NC, P15 I/O (io), R1 I/O (io), R2 I/O (io), R3 I/O (io), R4 I/O (io), R5 I/O (io), R6 I/O (io), R7 I (in), R8 I/O (io), R9 I/O (io), R10 I/O (io), R11 I/O (io), R12 I/O (io), R13 I/O (io), R14 I/O (io), R15 I/O (io)

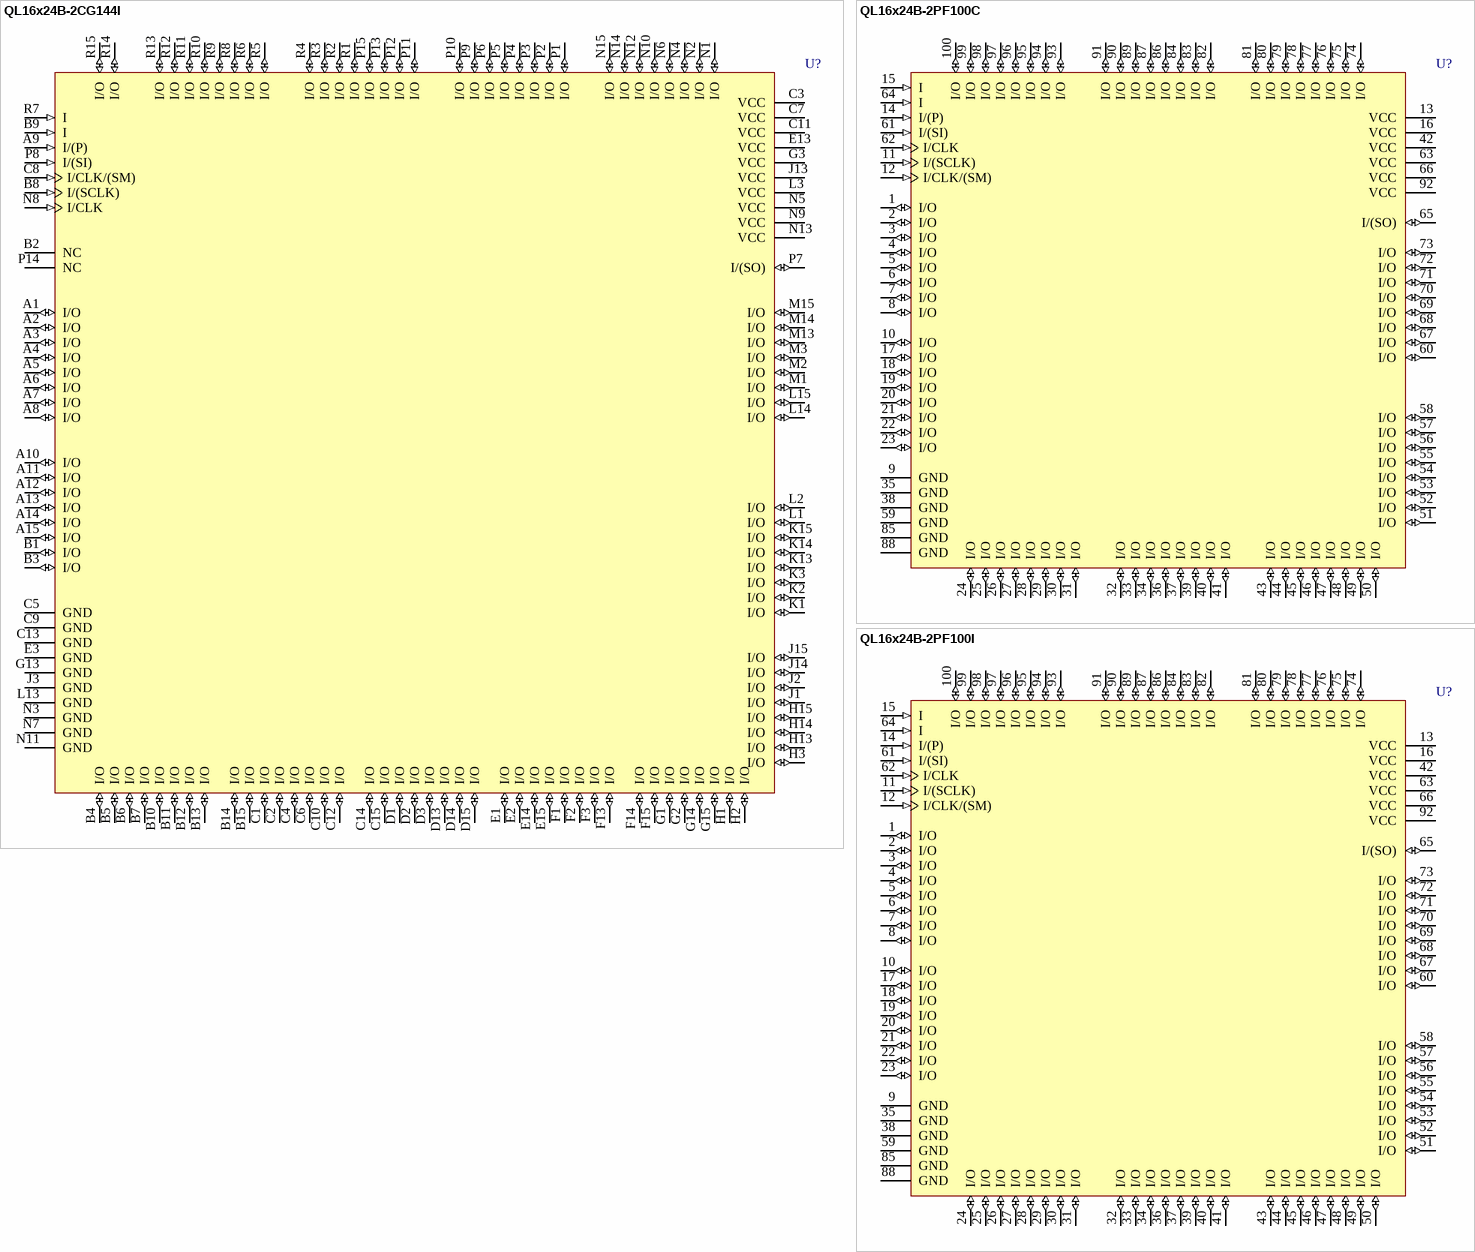
[diagram p26: symbols QL16x24B-2CG144I to QL16x24B-2PF100I]

## QL16x24B-2CG144I
designator U?
Very-High-Speed CMOS FPGA; Note: Pins B2,P14 are not connected; Published: 8-Jun-2000; LatestRevisionDate: 04-Mar-2005; LatestRevisionNote: Stylized 3D Model Added.; DatasheetVersion: 1999; PackageVersion: 1999; PackageReference: CG144; Publisher: Altium Limited; PackageDescription: 145-Pin Ceramic Pin Grid Array 2.54 mm Pitch; ComponentLink1Description: Manufacturer Link; ComponentLink1URL: http://www.quicklogic.com/; ComponentLink2Description: Datasheet; ComponentLink2URL: http://www.quicklogic.com/images/QL16x24b_DS.pdf; ComponentLink3Description: Discontinuation Notice; ComponentLink3URL: http://www.quicklogic.com/images/EOL_Letter_General.pdf
footprint CG144 (PGA, 145-Leads, Body 40x40mm, Pitch 2.54mm)
3D model QL16x24B-CG145 (145-Pin Ceramic Pin Grid Array 2.54 mm Pitch)
pins: A1 I/O (io), A2 I/O (io), A3 I/O (io), A4 I/O (io), A5 I/O (io), A6 I/O (io), A7 I/O (io), A8 I/O (io), A9 I/(P) (in), A10 I/O (io), A11 I/O (io), A12 I/O (io), A13 I/O (io), A14 I/O (io), A15 I/O (io), B1 I/O (io), B2 NC, B3 I/O (io), B4 I/O (io), B5 I/O (io), B6 I/O (io), B7 I/O (io), B8 I/(SCLK) (in), B9 I (in), B10 I/O (io), B11 I/O (io), B12 I/O (io), B13 I/O (io), B14 I/O (io), B15 I/O (io), C1 I/O (io), C2 I/O (io), C3 VCC (power), C4 I/O (io), C5 GND (power), C6 I/O (io), C7 VCC (power), C8 I/CLK/(SM) (in), C9 GND (power), C10 I/O (io), C11 VCC (power), C12 I/O (io), C13 GND (power), C14 I/O (io), C15 I/O (io), D1 I/O (io), D2 I/O (io), D3 I/O (io), D13 I/O (io), D14 I/O (io), D15 I/O (io), E1 I/O (io), E2 I/O (io), E3 GND (power), E13 VCC (power), E14 I/O (io), E15 I/O (io), F1 I/O (io), F2 I/O (io), F3 I/O (io), F13 I/O (io), F14 I/O (io), F15 I/O (io), G1 I/O (io), G2 I/O (io), G3 VCC (power), G13 GND (power), G14 I/O (io), G15 I/O (io), H1 I/O (io), H2 I/O (io), H3 I/O (io), H13 I/O (io), H14 I/O (io), H15 I/O (io), J1 I/O (io), J2 I/O (io), J3 GND (power), J13 VCC (power), J14 I/O (io), J15 I/O (io), K1 I/O (io), K2 I/O (io), K3 I/O (io), K13 I/O (io), K14 I/O (io), K15 I/O (io), L1 I/O (io), L2 I/O (io), L3 VCC (power), L13 GND (power), L14 I/O (io), L15 I/O (io), M1 I/O (io), M2 I/O (io), M3 I/O (io), M13 I/O (io), M14 I/O (io), M15 I/O (io), N1 I/O (io), N2 I/O (io), N3 GND (power), N4 I/O (io), N5 VCC (power), N6 I/O (io), N7 GND (power), N8 I/CLK (in), N9 VCC (power), N10 I/O (io), N11 GND (power), N12 I/O (io), N13 VCC (power), N14 I/O (io), N15 I/O (io), P1 I/O (io), P2 I/O (io), P3 I/O (io), P4 I/O (io), P5 I/O (io), P6 I/O (io), P7 I/(SO) (io), P8 I/(SI) (in), P9 I/O (io), P10 I/O (io), P11 I/O (io), P12 I/O (io), P13 I/O (io), P14 NC, P15 I/O (io), R1 I/O (io), R2 I/O (io), R3 I/O (io), R4 I/O (io), R5 I/O (io), R6 I/O (io), R7 I (in), R8 I/O (io), R9 I/O (io), R10 I/O (io), R11 I/O (io), R12 I/O (io), R13 I/O (io), R14 I/O (io), R15 I/O (io)

## QL16x24B-2PF100C
designator U?
Very-High-Speed CMOS FPGA; Published: 8-Jun-2000; LatestRevisionDate: 13-Apr-2006; LatestRevisionNote: IPC-7351 Footprint Added.; DatasheetVersion: 1999; PackageVersion: Feb-2000; PackageReference: PF100; Publisher: Altium Limited; PackageDescription: 100-Pin Thin Quad Flat Pack 0.5 mm Pitch; Code_JEDEC: MO-136; ComponentLink1Description: Manufacturer Link; ComponentLink1URL: http://www.quicklogic.com/; ComponentLink2Description: Datasheet; ComponentLink2URL: http://www.quicklogic.com/images/QL16x24b_DS.pdf; ComponentLink3Description: Discontinuation Notice; ComponentLink3URL: http://www.quicklogic.com/images/EOL_Letter_General.pdf
footprint PF100_N (Thin QFP, 100-Leads, Body 14x14mm, Pitch 0.5mm, IPC Medium Density)
footprint PF100_L (Thin QFP, 100-Leads, Body 14x14mm, Pitch 0.5mm, IPC High Density)
footprint PF100_M (Thin QFP, 100-Leads, Body 14x14mm, Pitch 0.5mm, IPC Low Density)
3D model QL16x24B-PF100 (100-Pin Thin Quad Flat Pack 0.5 mm Pitch)
pins: 1 I/O (io), 2 I/O (io), 3 I/O (io), 4 I/O (io), 5 I/O (io), 6 I/O (io), 7 I/O (io), 8 I/O (io), 9 GND (power), 10 I/O (io), 11 I/(SCLK) (in), 12 I/CLK/(SM) (in), 13 VCC (power), 14 I/(P) (in), 15 I (in), 16 VCC (power), 17 I/O (io), 18 I/O (io), 19 I/O (io), 20 I/O (io), 21 I/O (io), 22 I/O (io), 23 I/O (io), 24 I/O (io), 25 I/O (io), 26 I/O (io), 27 I/O (io), 28 I/O (io), 29 I/O (io), 30 I/O (io), 31 I/O (io), 32 I/O (io), 33 I/O (io), 34 I/O (io), 35 GND (power), 36 I/O (io), 37 I/O (io), 38 GND (power), 39 I/O (io), 40 I/O (io), 41 I/O (io), 42 VCC (power), 43 I/O (io), 44 I/O (io), 45 I/O (io), 46 I/O (io), 47 I/O (io), 48 I/O (io), 49 I/O (io), 50 I/O (io), 51 I/O (io), 52 I/O (io), 53 I/O (io), 54 I/O (io), 55 I/O (io), 56 I/O (io), 57 I/O (io), 58 I/O (io), 59 GND (power), 60 I/O (io), 61 I/(SI) (in), 62 I/CLK (in), 63 VCC (power), 64 I (in), 65 I/(SO) (io), 66 VCC (power), 67 I/O (io), 68 I/O (io), 69 I/O (io), 70 I/O (io), 71 I/O (io), 72 I/O (io), 73 I/O (io), 74 I/O (io), 75 I/O (io), 76 I/O (io), 77 I/O (io), 78 I/O (io), 79 I/O (io), 80 I/O (io), 81 I/O (io), 82 I/O (io), 83 I/O (io), 84 I/O (io), 85 GND (power), 86 I/O (io), 87 I/O (io), 88 GND (power), 89 I/O (io), 90 I/O (io), 91 I/O (io), 92 VCC (power), 93 I/O (io), 94 I/O (io), 95 I/O (io), 96 I/O (io), 97 I/O (io), 98 I/O (io), 99 I/O (io), 100 I/O (io)